# Altium schematic symbol library CHIP_PRO_v1_0_Library.SchLib: 70 symbols
Pins are listed as number, name and electrical type; pins without a type are passive.

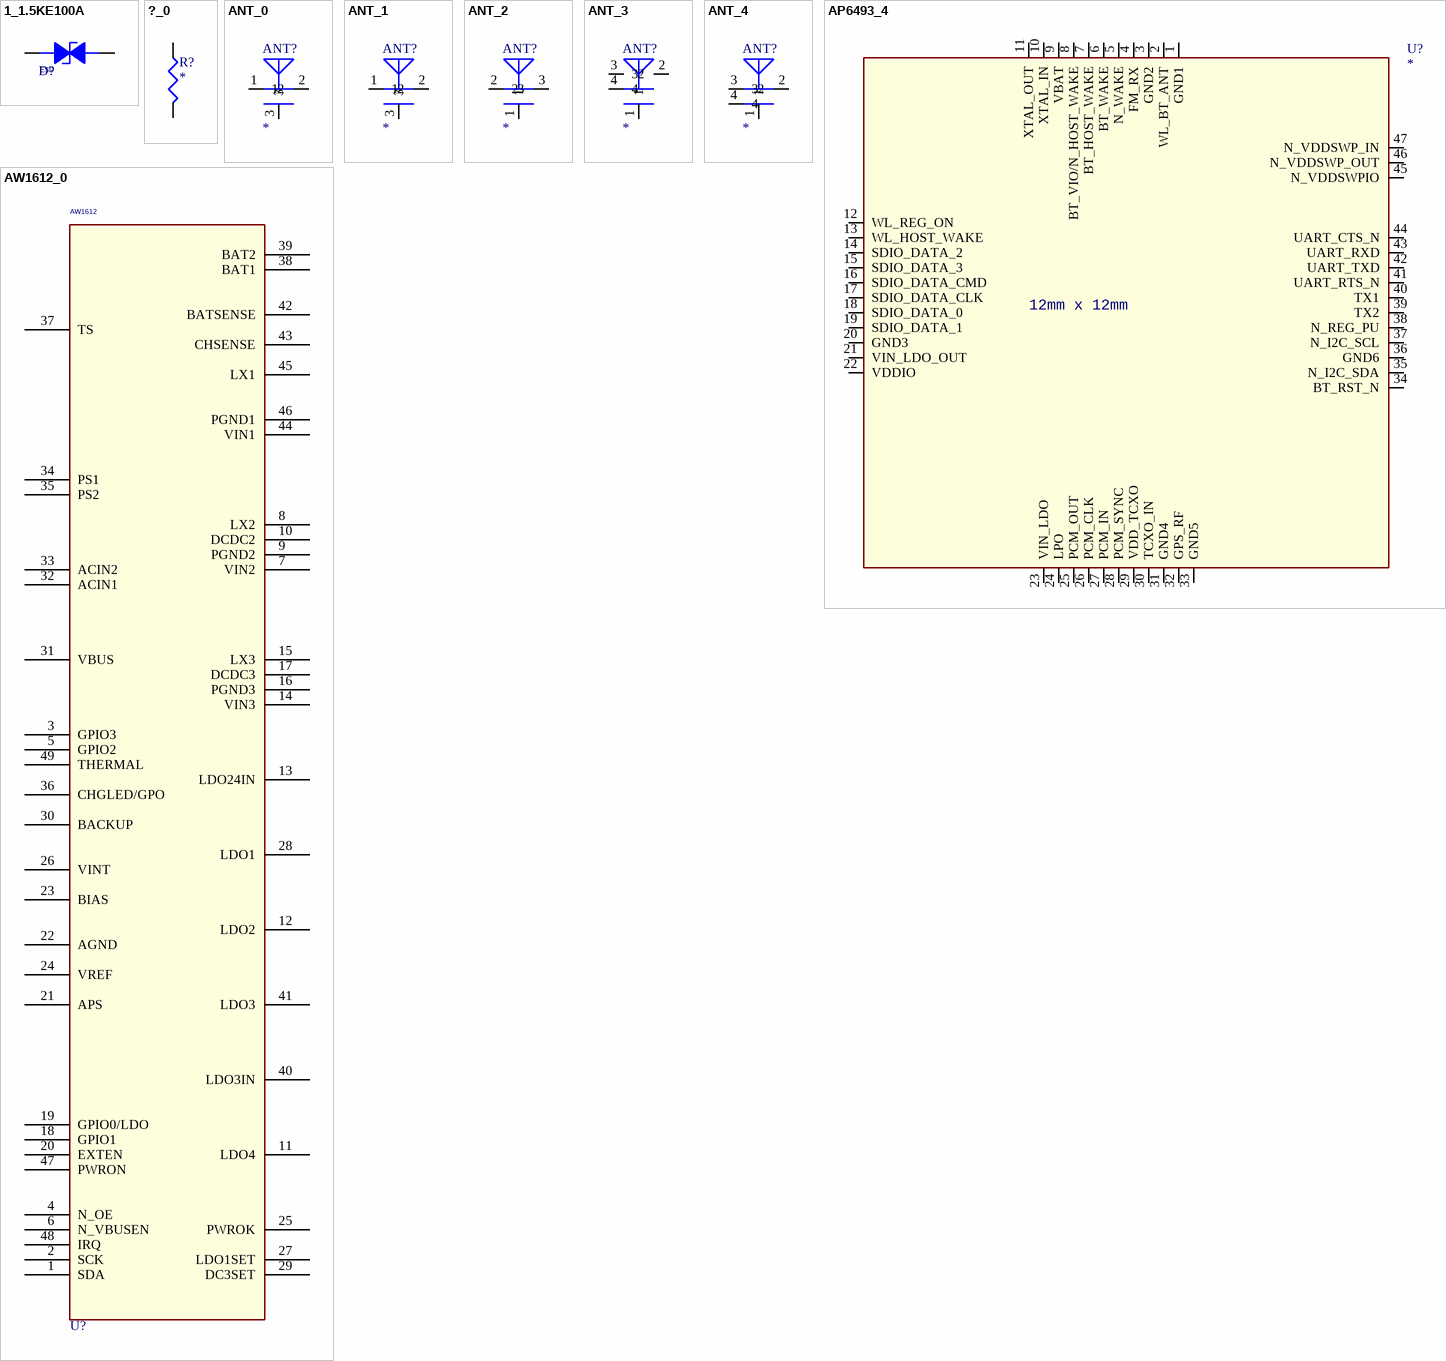
[diagram p0: symbols 1_1.5KE100A to AW1612_0]

## 1_1.5KE100A
designator D?, comment ESD
pins: 1 ANODE, 2 CATHODE

## ?_0
designator R?
footprint R0402
pins: 1, 2

## ANT_0
designator ANT?
pins: 1 (hiz), 2, 3

## ANT_1
designator ANT?
pins: 1, 2, 3

## ANT_2
designator ANT?
pins: 1, 2, 3

## ANT_3
designator ANT?
pins: 1, 2, 3, 4

## ANT_4
designator ANT?
pins: 1, 2, 3, 4

## AP6493_4
designator U?
pins: 1 GND1, 2 WL_BT_ANT, 3 GND2, 4 FM_RX, 5 N_WAKE, 6 BT_WAKE, 7 BT_HOST_WAKE, 8 BT_VIO/N_HOST_WAKE, 9 VBAT, 10 XTAL_IN, 11 XTAL_OUT, 12 WL_REG_ON, 13 WL_HOST_WAKE, 14 SDIO_DATA_2, 15 SDIO_DATA_3, 16 SDIO_DATA_CMD, 17 SDIO_DATA_CLK, 18 SDIO_DATA_0, 19 SDIO_DATA_1, 20 GND3, 21 VIN_LDO_OUT, 22 VDDIO, 23 VIN_LDO, 24 LPO, 25 PCM_OUT, 26 PCM_CLK, 27 PCM_IN, 28 PCM_SYNC, 29 VDD_TCXO, 30 TCXO_IN, 31 GND4, 32 GPS_RF, 33 GND5, 34 BT_RST_N, 35 N_I2C_SDA, 36 GND6, 37 N_I2C_SCL, 38 N_REG_PU, 39 TX2, 40 TX1, 41 UART_RTS_N, 42 UART_TXD, 43 UART_RXD, 44 UART_CTS_N, 45 N_VDDSWPIO, 46 N_VDDSWP_OUT, 47 N_VDDSWP_IN
text: 12mm x 12mm

## AW1612_0
designator U?, comment AW1612
pins: 1 SDA, 2 SCK, 3 GPIO3, 4 N_OE, 5 GPIO2, 6 N_VBUSEN, 7 VIN2, 8 LX2, 9 PGND2, 10 DCDC2, 11 LDO4, 12 LDO2, 13 LDO24IN, 14 VIN3, 15 LX3, 16 PGND3, 17 DCDC3, 18 GPIO1, 19 GPIO0/LDO, 20 EXTEN, 21 APS, 22 AGND, 23 BIAS, 24 VREF, 25 PWROK, 26 VINT, 27 LDO1SET, 28 LDO1, 29 DC3SET, 30 BACKUP, 31 VBUS, 32 ACIN1, 33 ACIN2, 34 PS1, 35 PS2, 36 CHGLED/GPO, 37 TS, 38 BAT1, 39 BAT2, 40 LDO3IN, 41 LDO3, 42 BATSENSE, 43 CHSENSE, 44 VIN1, 45 LX1, 46 PGND1, 47 PWRON, 48 IRQ, 49 THERMAL

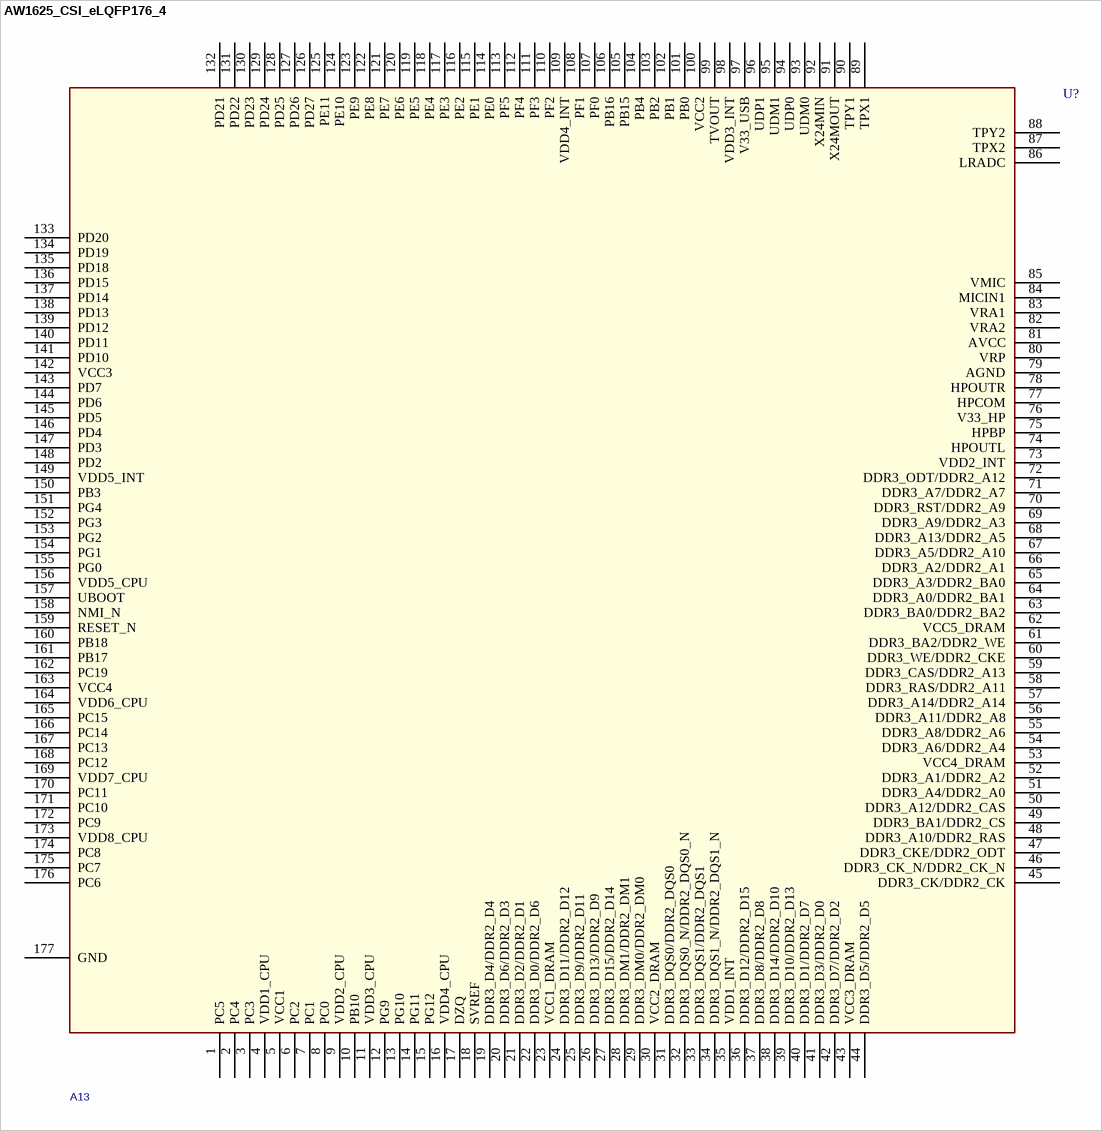
[diagram p1: symbol AW1625_CSI_eLQFP176_4]

## AW1625_CSI_eLQFP176_4
designator U?, comment A13
pins: 1 PC5, 2 PC4, 3 PC3, 4 VDD1_CPU, 5 VCC1, 6 PC2, 7 PC1, 8 PC0, 9 VDD2_CPU, 10 PB10, 11 VDD3_CPU, 12 PG9, 13 PG10, 14 PG11, 15 PG12, 16 VDD4_CPU, 17 DZQ, 18 SVREF, 19 DDR3_D4/DDR2_D4, 20 DDR3_D6/DDR2_D3, 21 DDR3_D2/DDR2_D1, 22 DDR3_D0/DDR2_D6, 23 VCC1_DRAM, 24 DDR3_D11/DDR2_D12, 25 DDR3_D9/DDR2_D11, 26 DDR3_D13/DDR2_D9, 27 DDR3_D15/DDR2_D14, 28 DDR3_DM1/DDR2_DM1, 29 DDR3_DM0/DDR2_DM0, 30 VCC2_DRAM, 31 DDR3_DQS0/DDR2_DQS0, 32 DDR3_DQS0_N/DDR2_DQS0_N, 33 DDR3_DQS1/DDR2_DQS1, 34 DDR3_DQS1_N/DDR2_DQS1_N, 35 VDD1_INT, 36 DDR3_D12/DDR2_D15, 37 DDR3_D8/DDR2_D8, 38 DDR3_D14/DDR2_D10, 39 DDR3_D10/DDR2_D13, 40 DDR3_D1/DDR2_D7, 41 DDR3_D3/DDR2_D0, 42 DDR3_D7/DDR2_D2, 43 VCC3_DRAM, 44 DDR3_D5/DDR2_D5, 45 DDR3_CK/DDR2_CK, 46 DDR3_CK_N/DDR2_CK_N, 47 DDR3_CKE/DDR2_ODT, 48 DDR3_A10/DDR2_RAS, 49 DDR3_BA1/DDR2_CS, 50 DDR3_A12/DDR2_CAS, 51 DDR3_A4/DDR2_A0, 52 DDR3_A1/DDR2_A2, 53 VCC4_DRAM, 54 DDR3_A6/DDR2_A4, 55 DDR3_A8/DDR2_A6, 56 DDR3_A11/DDR2_A8, 57 DDR3_A14/DDR2_A14, 58 DDR3_RAS/DDR2_A11, 59 DDR3_CAS/DDR2_A13, 60 DDR3_WE/DDR2_CKE, 61 DDR3_BA2/DDR2_WE, 62 VCC5_DRAM, 63 DDR3_BA0/DDR2_BA2, 64 DDR3_A0/DDR2_BA1, 65 DDR3_A3/DDR2_BA0, 66 DDR3_A2/DDR2_A1, 67 DDR3_A5/DDR2_A10, 68 DDR3_A13/DDR2_A5, 69 DDR3_A9/DDR2_A3, 70 DDR3_RST/DDR2_A9, 71 DDR3_A7/DDR2_A7, 72 DDR3_ODT/DDR2_A12, 73 VDD2_INT, 74 HPOUTL, 75 HPBP, 76 V33_HP, 77 HPCOM, 78 HPOUTR, 79 AGND, 80 VRP, 81 AVCC, 82 VRA2, 83 VRA1, 84 MICIN1, 85 VMIC, 86 LRADC, 87 TPX2, 88 TPY2, 89 TPX1, 90 TPY1, 91 X24MOUT, 92 X24MIN, 93 UDM0, 94 UDP0, 95 UDM1, 96 UDP1, 97 V33_USB, 98 VDD3_INT, 99 TVOUT, 100 VCC2, 101 PB0, 102 PB1, 103 PB2, 104 PB4, 105 PB15, 106 PB16, 107 PF0, 108 PF1, 109 VDD4_INT, 110 PF2, 111 PF3, 112 PF4, 113 PF5, 114 PE0, 115 PE1, 116 PE2, 117 PE3, 118 PE4, 119 PE5, 120 PE6, 121 PE7, 122 PE8, 123 PE9, 124 PE10, 125 PE11, 126 PD27, 127 PD26, 128 PD25, 129 PD24, 130 PD23, 131 PD22, 132 PD21, 133 PD20, 134 PD19, 135 PD18, 136 PD15, 137 PD14, 138 PD13, 139 PD12, 140 PD11, 141 PD10, 142 VCC3, 143 PD7, 144 PD6, 145 PD5, 146 PD4, 147 PD3, 148 PD2, 149 VDD5_INT, 150 PB3, 151 PG4, 152 PG3, 153 PG2, 154 PG1, 155 PG0, 156 VDD5_CPU, 157 UBOOT, 158 NMI_N, 159 RESET_N, 160 PB18, 161 PB17, 162 PC19, 163 VCC4, 164 VDD6_CPU, 165 PC15, 166 PC14, 167 PC13, 168 PC12, 169 VDD7_CPU, 170 PC11, 171 PC10, 172 PC9, 173 VDD8_CPU, 174 PC8, 175 PC7, 176 PC6, 177 GND

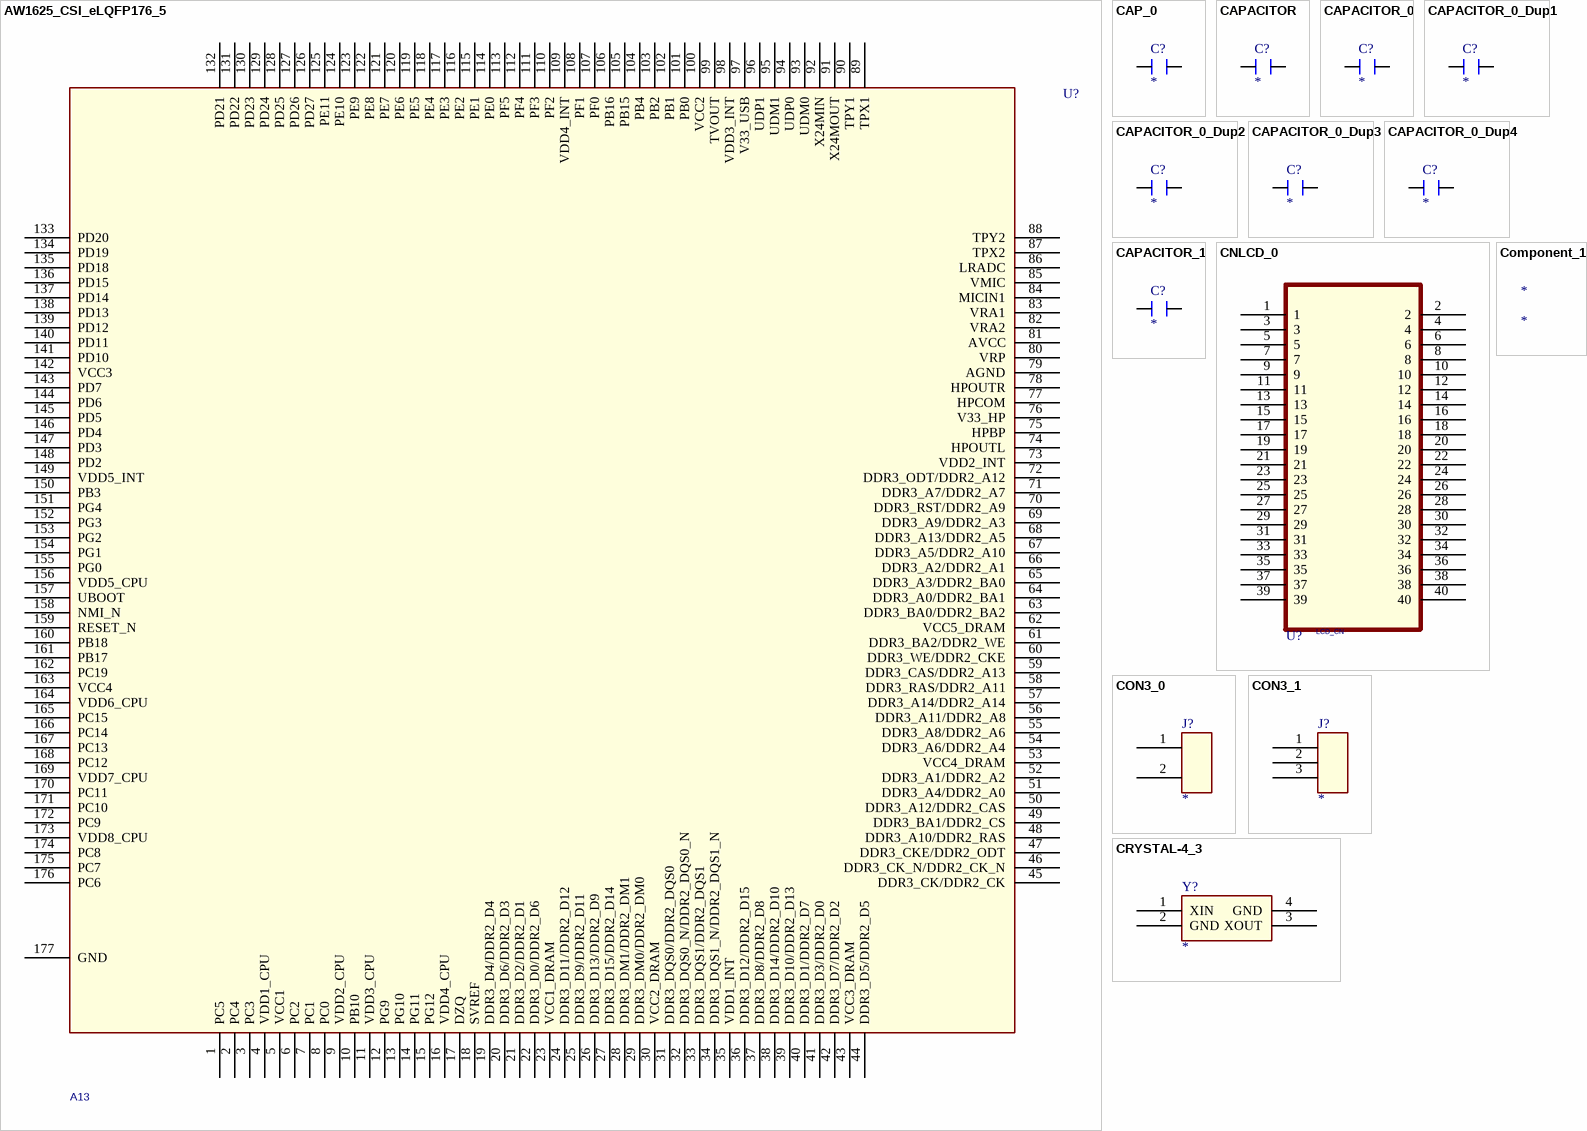
[diagram p2: symbols AW1625_CSI_eLQFP176_5 to CRYSTAL-4_3]

## AW1625_CSI_eLQFP176_5
designator U?, comment A13
pins: 1 PC5, 2 PC4, 3 PC3, 4 VDD1_CPU, 5 VCC1, 6 PC2, 7 PC1, 8 PC0, 9 VDD2_CPU, 10 PB10, 11 VDD3_CPU, 12 PG9, 13 PG10, 14 PG11, 15 PG12, 16 VDD4_CPU, 17 DZQ, 18 SVREF, 19 DDR3_D4/DDR2_D4, 20 DDR3_D6/DDR2_D3, 21 DDR3_D2/DDR2_D1, 22 DDR3_D0/DDR2_D6, 23 VCC1_DRAM, 24 DDR3_D11/DDR2_D12, 25 DDR3_D9/DDR2_D11, 26 DDR3_D13/DDR2_D9, 27 DDR3_D15/DDR2_D14, 28 DDR3_DM1/DDR2_DM1, 29 DDR3_DM0/DDR2_DM0, 30 VCC2_DRAM, 31 DDR3_DQS0/DDR2_DQS0, 32 DDR3_DQS0_N/DDR2_DQS0_N, 33 DDR3_DQS1/DDR2_DQS1, 34 DDR3_DQS1_N/DDR2_DQS1_N, 35 VDD1_INT, 36 DDR3_D12/DDR2_D15, 37 DDR3_D8/DDR2_D8, 38 DDR3_D14/DDR2_D10, 39 DDR3_D10/DDR2_D13, 40 DDR3_D1/DDR2_D7, 41 DDR3_D3/DDR2_D0, 42 DDR3_D7/DDR2_D2, 43 VCC3_DRAM, 44 DDR3_D5/DDR2_D5, 45 DDR3_CK/DDR2_CK, 46 DDR3_CK_N/DDR2_CK_N, 47 DDR3_CKE/DDR2_ODT, 48 DDR3_A10/DDR2_RAS, 49 DDR3_BA1/DDR2_CS, 50 DDR3_A12/DDR2_CAS, 51 DDR3_A4/DDR2_A0, 52 DDR3_A1/DDR2_A2, 53 VCC4_DRAM, 54 DDR3_A6/DDR2_A4, 55 DDR3_A8/DDR2_A6, 56 DDR3_A11/DDR2_A8, 57 DDR3_A14/DDR2_A14, 58 DDR3_RAS/DDR2_A11, 59 DDR3_CAS/DDR2_A13, 60 DDR3_WE/DDR2_CKE, 61 DDR3_BA2/DDR2_WE, 62 VCC5_DRAM, 63 DDR3_BA0/DDR2_BA2, 64 DDR3_A0/DDR2_BA1, 65 DDR3_A3/DDR2_BA0, 66 DDR3_A2/DDR2_A1, 67 DDR3_A5/DDR2_A10, 68 DDR3_A13/DDR2_A5, 69 DDR3_A9/DDR2_A3, 70 DDR3_RST/DDR2_A9, 71 DDR3_A7/DDR2_A7, 72 DDR3_ODT/DDR2_A12, 73 VDD2_INT, 74 HPOUTL, 75 HPBP, 76 V33_HP, 77 HPCOM, 78 HPOUTR, 79 AGND, 80 VRP, 81 AVCC, 82 VRA2, 83 VRA1, 84 MICIN1, 85 VMIC, 86 LRADC, 87 TPX2, 88 TPY2, 89 TPX1, 90 TPY1, 91 X24MOUT, 92 X24MIN, 93 UDM0, 94 UDP0, 95 UDM1, 96 UDP1, 97 V33_USB, 98 VDD3_INT, 99 TVOUT, 100 VCC2, 101 PB0, 102 PB1, 103 PB2, 104 PB4, 105 PB15, 106 PB16, 107 PF0, 108 PF1, 109 VDD4_INT, 110 PF2, 111 PF3, 112 PF4, 113 PF5, 114 PE0, 115 PE1, 116 PE2, 117 PE3, 118 PE4, 119 PE5, 120 PE6, 121 PE7, 122 PE8, 123 PE9, 124 PE10, 125 PE11, 126 PD27, 127 PD26, 128 PD25, 129 PD24, 130 PD23, 131 PD22, 132 PD21, 133 PD20, 134 PD19, 135 PD18, 136 PD15, 137 PD14, 138 PD13, 139 PD12, 140 PD11, 141 PD10, 142 VCC3, 143 PD7, 144 PD6, 145 PD5, 146 PD4, 147 PD3, 148 PD2, 149 VDD5_INT, 150 PB3, 151 PG4, 152 PG3, 153 PG2, 154 PG1, 155 PG0, 156 VDD5_CPU, 157 UBOOT, 158 NMI_N, 159 RESET_N, 160 PB18, 161 PB17, 162 PC19, 163 VCC4, 164 VDD6_CPU, 165 PC15, 166 PC14, 167 PC13, 168 PC12, 169 VDD7_CPU, 170 PC11, 171 PC10, 172 PC9, 173 VDD8_CPU, 174 PC8, 175 PC7, 176 PC6, 177 GND

## CAP_0
designator C?
footprint 0805
pins: 1, 2

## CAPACITOR
designator C?
pins: 1, 2

## CAPACITOR_0
designator C?
pins: 1, 2

## CAPACITOR_0_Dup1
designator C?
pins: 1, 2

## CAPACITOR_0_Dup2
designator C?
pins: 1, 2

## CAPACITOR_0_Dup3
designator C?
pins: 1, 2

## CAPACITOR_0_Dup4
designator C?
pins: 1, 2

## CAPACITOR_1
designator C?
pins: 1, 2

## CNLCD_0
designator U?, comment LCD_CN
pins: 1, 2, 3, 4, 5, 6, 7, 8, 9, 10, 11, 12, 13, 14, 15, 16, 17, 18, 19, 20, 21, 22, 23, 24, 25, 26, 27, 28, 29, 30, 31, 32, 33, 34, 35, 36, 37, 38, 39, 40

## Component_1
designator *

## CON3_0
designator J?
pins: 1, 2

## CON3_1
designator J?
pins: 1, 2, 3

## CRYSTAL-4_3
designator Y?
footprint CRY-3225
pins: 1 XIN, 2 GND (power), 3 XOUT, 4 GND (power)

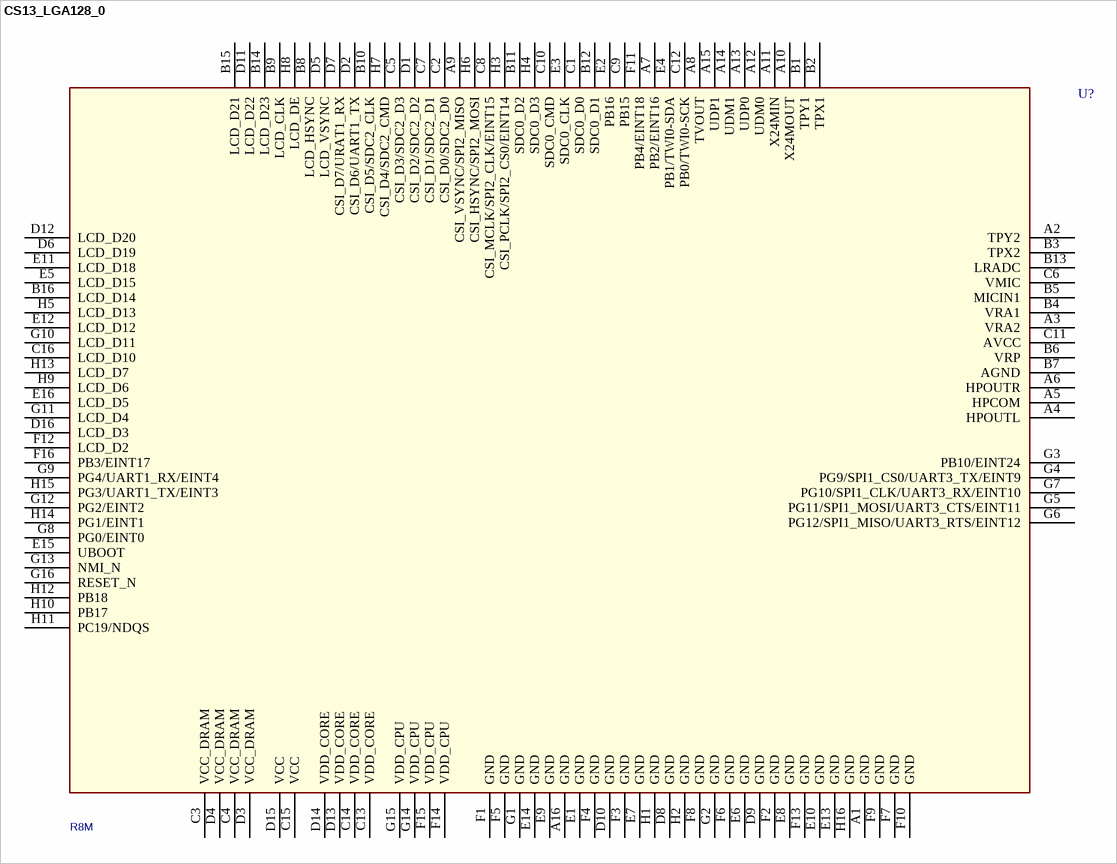
[diagram p3: symbol CS13_LGA128_0]

## CS13_LGA128_0
designator U?, comment R8M
pins: A1 GND (power), A2 TPY2, A3 VRA2, A4 HPOUTL, A5 HPCOM, A6 HPOUTR, A7 PB2/EINT16, A8 TVOUT, A9 CSI_VSYNC/SPI2_MISO, A10 X24MOUT, A11 X24MIN, A12 UDM0, A13 UDP0, A14 UDM1, A15 UDP1, A16 GND (power), B1 TPY1, B2 TPX1, B3 TPX2, B4 VRA1, B5 MICIN1, B6 VRP, B7 AGND, B8 LCD_HSYNC, B9 LCD_CLK, B10 CSI_D5/SDC2_CLK, B11 SDC0_D2, B12 SDC0_D1, B13 LRADC, B14 LCD_D23, B15 LCD_D21, B16 LCD_D14, C1 SDC0_D0, C2 CSI_D0/SDC2_D0, C3 VCC_DRAM (power), C4 VCC_DRAM (power), C5 CSI_D3/SDC2_D3, C6 VMIC, C7 CSI_D1/SDC2_D1, C8 CSI_MCLK/SPI2_CLK/EINT15, C9 PB15, C10 SDC0_CMD, C11 AVCC, C12 PB0/TWI0-SCK, C13 VDD_CORE (power), C14 VDD_CORE (power), C15 VCC (power), C16 LCD_D10, D1 CSI_D2/SDC2_D2, D2 CSI_D6/UART1_TX, D3 VCC_DRAM (power), D4 VCC_DRAM (power), D5 LCD_VSYNC, D6 LCD_D19, D7 CSI_D7/URAT1_RX, D8 GND (power), D9 GND (power), D10 GND (power), D11 LCD_D22, D12 LCD_D20, D13 VDD_CORE (power), D14 VDD_CORE (power), D15 VCC (power), D16 LCD_D3, E1 GND (power), E2 PB16, E3 SDC0_CLK, E4 PB1/TWI0-SDA, E5 LCD_D15, E6 GND (power), E7 GND (power), E8 GND (power), E9 GND (power), E10 GND (power), E11 LCD_D18, E12 LCD_D12, E13 GND (power), E14 GND (power), E15 UBOOT, E16 LCD_D5, F1 GND (power), F2 GND (power), F3 GND (power), F4 GND (power), F5 GND (power), F6 GND (power), F7 GND (power), F8 GND (power), F9 GND (power), F10 GND (power), F11 PB4/EINT18, F12 LCD_D2, F13 GND (power), F14 VDD_CPU (power), F15 VDD_CPU (power), F16 PB3/EINT17, G1 GND (power), G2 GND (power), G3 PB10/EINT24, G4 PG9/SPI1_CS0/UART3_TX/EINT9, G5 PG11/SPI1_MOSI/UART3_CTS/EINT11, G6 PG12/SPI1_MISO/UART3_RTS/EINT12, G7 PG10/SPI1_CLK/UART3_RX/EINT10, G8 PG0/EINT0, G9 PG4/UART1_RX/EINT4, G10 LCD_D11, G11 LCD_D4, G12 PG2/EINT2, G13 NMI_N, G14 VDD_CPU (power), G15 VDD_CPU (power), G16 RESET_N, H1 GND (power), H2 GND (power), H3 CSI_PCLK/SPI2_CS0/EINT14, H4 SDC0_D3, H5 LCD_D13, H6 CSI_HSYNC/SPI2_MOSI, H7 CSI_D4/SDC2_CMD, H8 LCD_DE, H9 LCD_D6, H10 PB17, H11 PC19/NDQS, H12 PB18, H13 LCD_D7, H14 PG1/EINT1, H15 PG3/UART1_TX/EINT3, H16 GND (power)

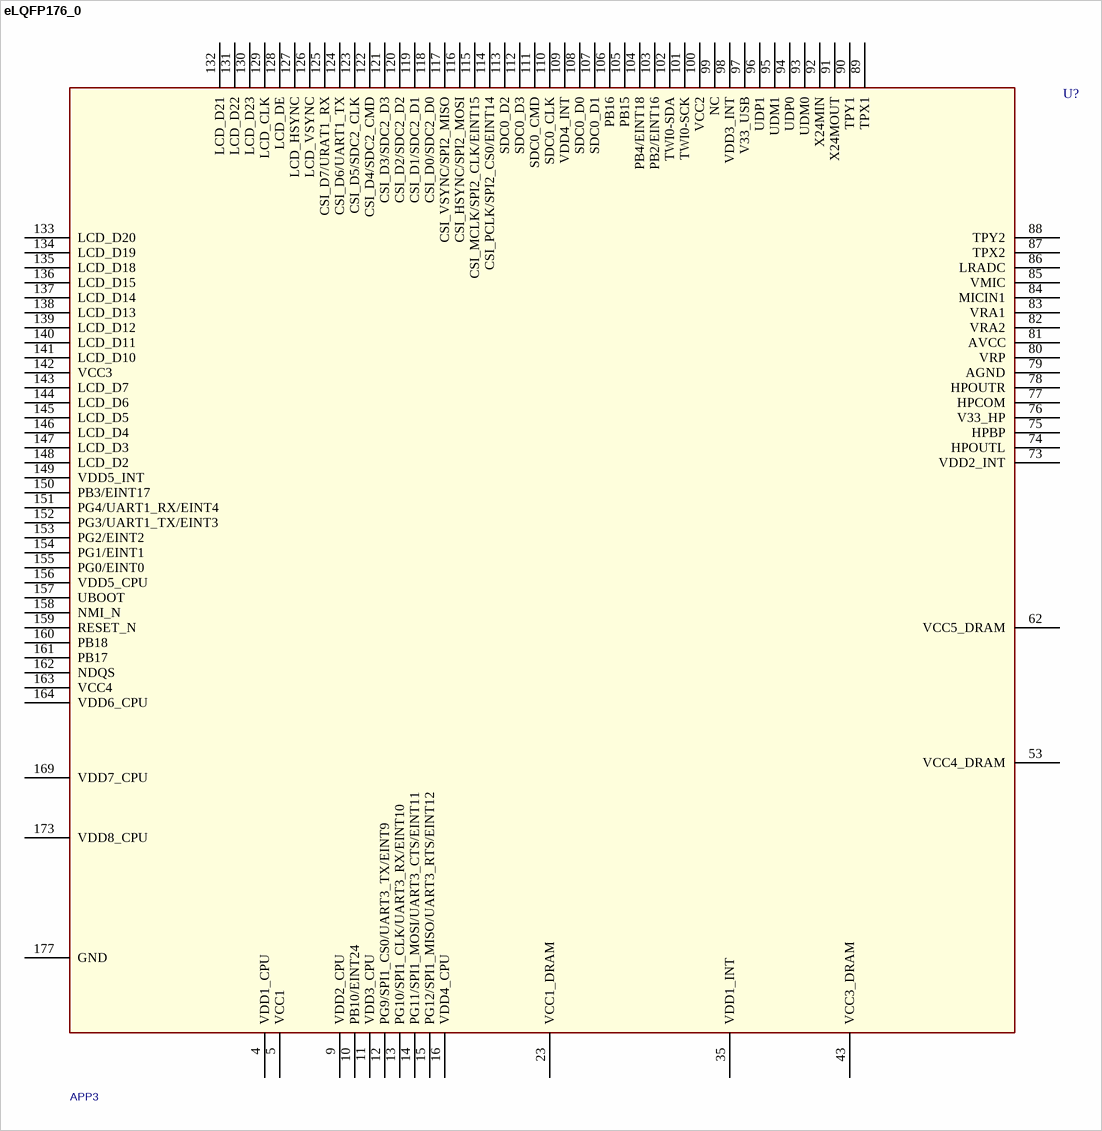
[diagram p4: symbol eLQFP176_0]

## eLQFP176_0
designator U?, comment APP3
pins: 4 VDD1_CPU, 5 VCC1, 9 VDD2_CPU, 10 PB10/EINT24, 11 VDD3_CPU, 12 PG9/SPI1_CS0/UART3_TX/EINT9, 13 PG10/SPI1_CLK/UART3_RX/EINT10, 14 PG11/SPI1_MOSI/UART3_CTS/EINT11, 15 PG12/SPI1_MISO/UART3_RTS/EINT12, 16 VDD4_CPU, 23 VCC1_DRAM, 35 VDD1_INT, 43 VCC3_DRAM, 53 VCC4_DRAM, 62 VCC5_DRAM, 73 VDD2_INT, 74 HPOUTL, 75 HPBP, 76 V33_HP, 77 HPCOM, 78 HPOUTR, 79 AGND, 80 VRP, 81 AVCC, 82 VRA2, 83 VRA1, 84 MICIN1, 85 VMIC, 86 LRADC, 87 TPX2, 88 TPY2, 89 TPX1, 90 TPY1, 91 X24MOUT, 92 X24MIN, 93 UDM0, 94 UDP0, 95 UDM1, 96 UDP1, 97 V33_USB, 98 VDD3_INT, 99 NC, 100 VCC2, 101 TWI0-SCK, 102 TWI0-SDA, 103 PB2/EINT16, 104 PB4/EINT18, 105 PB15, 106 PB16, 107 SDC0_D1, 108 SDC0_D0, 109 VDD4_INT, 110 SDC0_CLK, 111 SDC0_CMD, 112 SDC0_D3, 113 SDC0_D2, 114 CSI_PCLK/SPI2_CS0/EINT14, 115 CSI_MCLK/SPI2_CLK/EINT15, 116 CSI_HSYNC/SPI2_MOSI, 117 CSI_VSYNC/SPI2_MISO, 118 CSI_D0/SDC2_D0, 119 CSI_D1/SDC2_D1, 120 CSI_D2/SDC2_D2, 121 CSI_D3/SDC2_D3, 122 CSI_D4/SDC2_CMD, 123 CSI_D5/SDC2_CLK, 124 CSI_D6/UART1_TX, 125 CSI_D7/URAT1_RX, 126 LCD_VSYNC, 127 LCD_HSYNC, 128 LCD_DE, 129 LCD_CLK, 130 LCD_D23, 131 LCD_D22, 132 LCD_D21, 133 LCD_D20, 134 LCD_D19, 135 LCD_D18, 136 LCD_D15, 137 LCD_D14, 138 LCD_D13, 139 LCD_D12, 140 LCD_D11, 141 LCD_D10, 142 VCC3, 143 LCD_D7, 144 LCD_D6, 145 LCD_D5, 146 LCD_D4, 147 LCD_D3, 148 LCD_D2, 149 VDD5_INT, 150 PB3/EINT17, 151 PG4/UART1_RX/EINT4, 152 PG3/UART1_TX/EINT3, 153 PG2/EINT2, 154 PG1/EINT1, 155 PG0/EINT0, 156 VDD5_CPU, 157 UBOOT, 158 NMI_N, 159 RESET_N, 160 PB18, 161 PB17, 162 NDQS, 163 VCC4, 164 VDD6_CPU, 169 VDD7_CPU, 173 VDD8_CPU, 177 GND

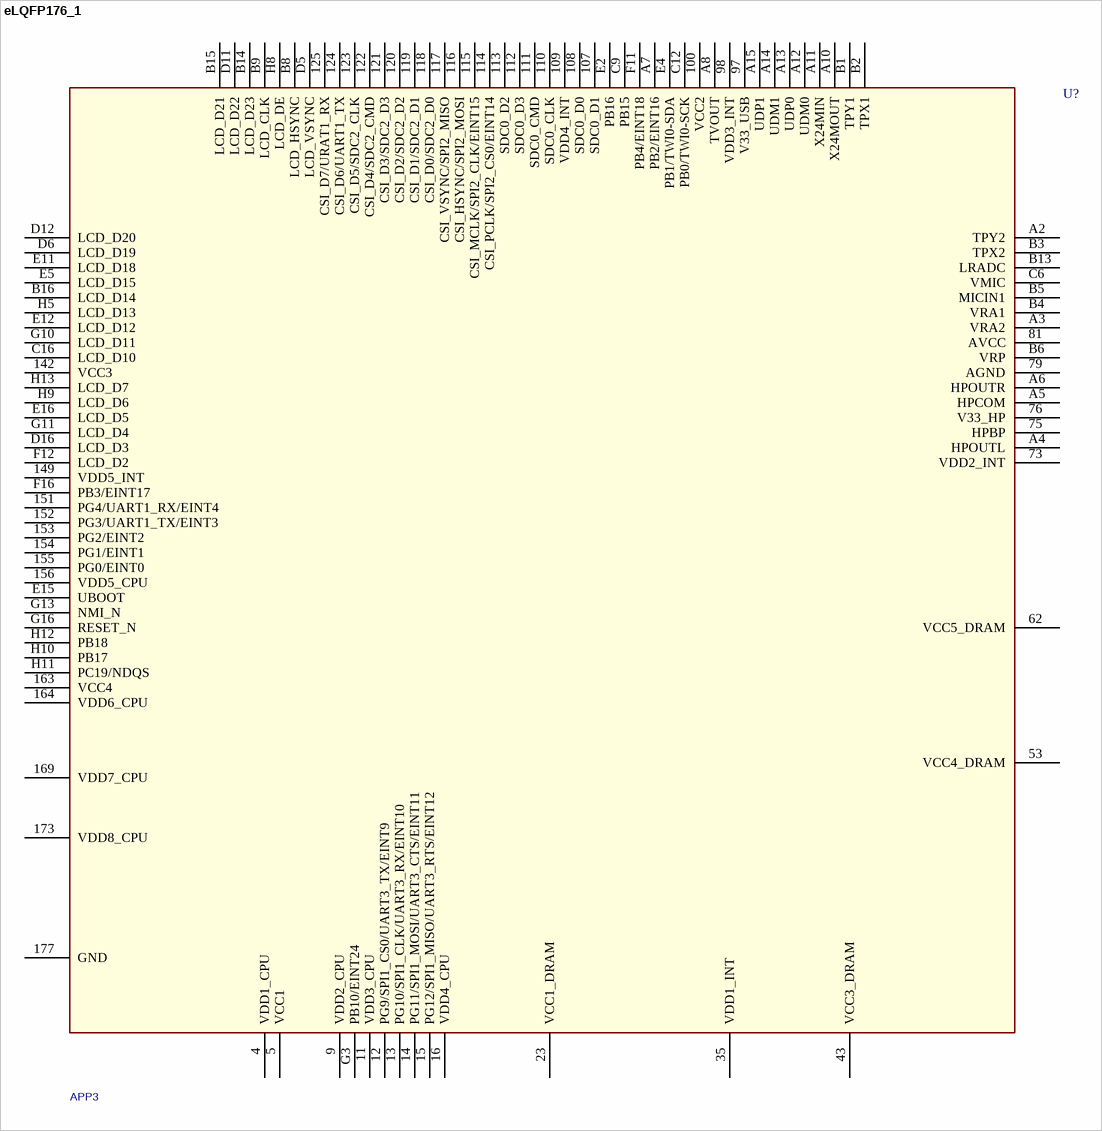
[diagram p5: symbol eLQFP176_1]

## eLQFP176_1
designator U?, comment APP3
pins: 4 VDD1_CPU, 5 VCC1, 9 VDD2_CPU, 11 VDD3_CPU, 12 PG9/SPI1_CS0/UART3_TX/EINT9, 13 PG10/SPI1_CLK/UART3_RX/EINT10, 14 PG11/SPI1_MOSI/UART3_CTS/EINT11, 15 PG12/SPI1_MISO/UART3_RTS/EINT12, 16 VDD4_CPU, 23 VCC1_DRAM, 35 VDD1_INT, 43 VCC3_DRAM, 53 VCC4_DRAM, 62 VCC5_DRAM, 73 VDD2_INT, 75 HPBP, 76 V33_HP, 79 AGND, 81 AVCC, 97 V33_USB, 98 VDD3_INT, 100 VCC2, 107 SDC0_D1, 108 SDC0_D0, 109 VDD4_INT, 110 SDC0_CLK, 111 SDC0_CMD, 112 SDC0_D3, 113 SDC0_D2, 114 CSI_PCLK/SPI2_CS0/EINT14, 115 CSI_MCLK/SPI2_CLK/EINT15, 116 CSI_HSYNC/SPI2_MOSI, 117 CSI_VSYNC/SPI2_MISO, 118 CSI_D0/SDC2_D0, 119 CSI_D1/SDC2_D1, 120 CSI_D2/SDC2_D2, 121 CSI_D3/SDC2_D3, 122 CSI_D4/SDC2_CMD, 123 CSI_D5/SDC2_CLK, 124 CSI_D6/UART1_TX, 125 CSI_D7/URAT1_RX, 142 VCC3, 149 VDD5_INT, 151 PG4/UART1_RX/EINT4, 152 PG3/UART1_TX/EINT3, 153 PG2/EINT2, 154 PG1/EINT1, 155 PG0/EINT0, 156 VDD5_CPU, 163 VCC4, 164 VDD6_CPU, 169 VDD7_CPU, 173 VDD8_CPU, 177 GND, A2 TPY2, A3 VRA2, A4 HPOUTL, A5 HPCOM, A6 HPOUTR, A7 PB2/EINT16, A8 TVOUT, A10 X24MOUT, A11 X24MIN, A12 UDM0, A13 UDP0, A14 UDM1, A15 UDP1, B1 TPY1, B2 TPX1, B3 TPX2, B4 VRA1, B5 MICIN1, B6 VRP, B8 LCD_HSYNC, B9 LCD_CLK, B13 LRADC, B14 LCD_D23, B15 LCD_D21, B16 LCD_D14, C6 VMIC, C9 PB15, C12 PB0/TWI0-SCK, C16 LCD_D10, D5 LCD_VSYNC, D6 LCD_D19, D11 LCD_D22, D12 LCD_D20, D16 LCD_D3, E2 PB16, E4 PB1/TWI0-SDA, E5 LCD_D15, E11 LCD_D18, E12 LCD_D12, E15 UBOOT, E16 LCD_D5, F11 PB4/EINT18, F12 LCD_D2, F16 PB3/EINT17, G3 PB10/EINT24, G10 LCD_D11, G11 LCD_D4, G13 NMI_N, G16 RESET_N, H5 LCD_D13, H8 LCD_DE, H9 LCD_D6, H10 PB17, H11 PC19/NDQS, H12 PB18, H13 LCD_D7

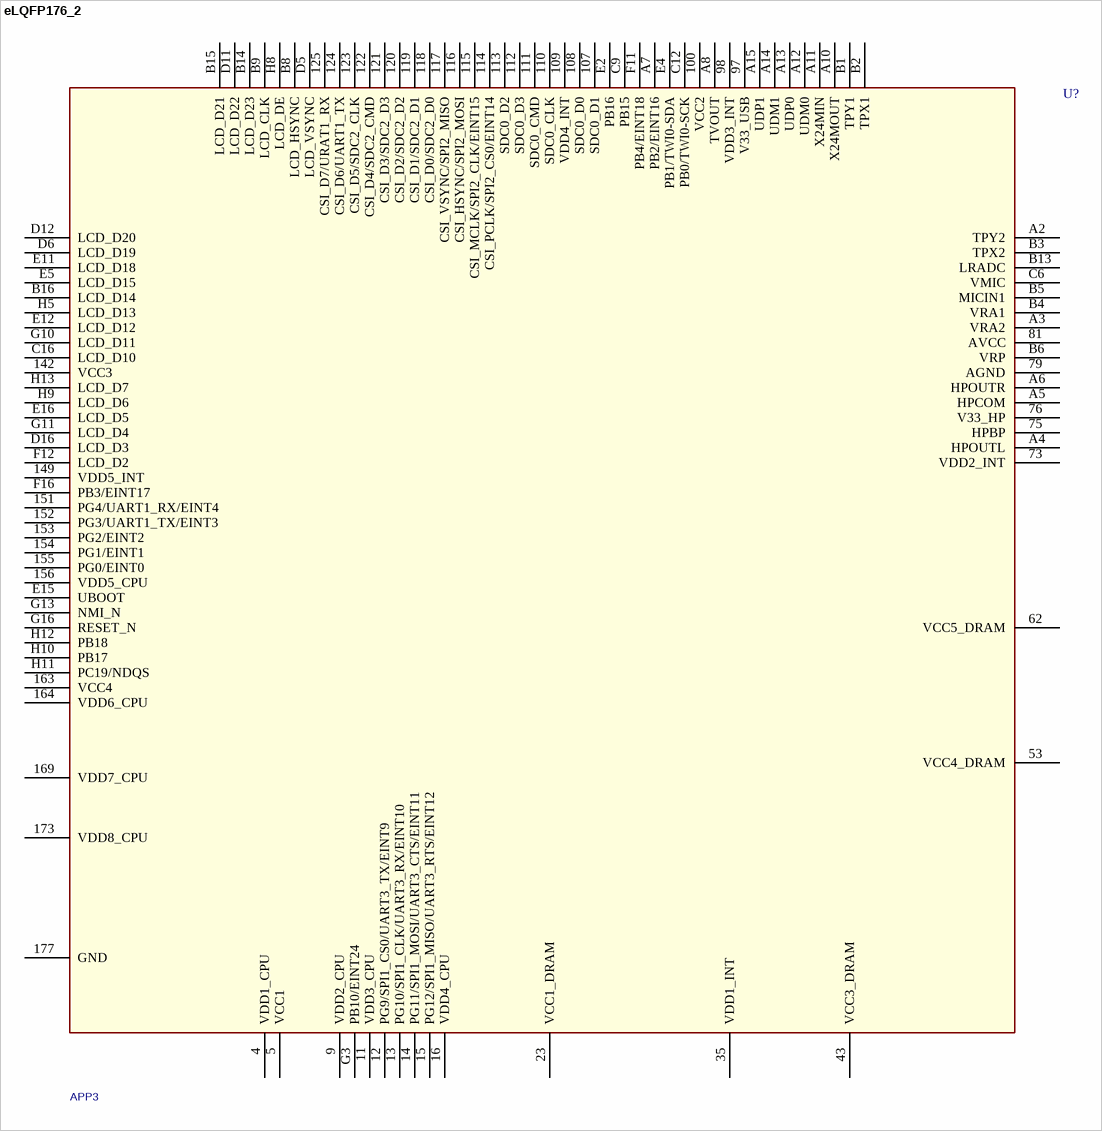
[diagram p6: symbol eLQFP176_2]

## eLQFP176_2
designator U?, comment APP3
pins: 4 VDD1_CPU, 5 VCC1, 9 VDD2_CPU, 11 VDD3_CPU, 12 PG9/SPI1_CS0/UART3_TX/EINT9, 13 PG10/SPI1_CLK/UART3_RX/EINT10, 14 PG11/SPI1_MOSI/UART3_CTS/EINT11, 15 PG12/SPI1_MISO/UART3_RTS/EINT12, 16 VDD4_CPU, 23 VCC1_DRAM, 35 VDD1_INT, 43 VCC3_DRAM, 53 VCC4_DRAM, 62 VCC5_DRAM, 73 VDD2_INT, 75 HPBP, 76 V33_HP, 79 AGND, 81 AVCC, 97 V33_USB, 98 VDD3_INT, 100 VCC2, 107 SDC0_D1, 108 SDC0_D0, 109 VDD4_INT, 110 SDC0_CLK, 111 SDC0_CMD, 112 SDC0_D3, 113 SDC0_D2, 114 CSI_PCLK/SPI2_CS0/EINT14, 115 CSI_MCLK/SPI2_CLK/EINT15, 116 CSI_HSYNC/SPI2_MOSI, 117 CSI_VSYNC/SPI2_MISO, 118 CSI_D0/SDC2_D0, 119 CSI_D1/SDC2_D1, 120 CSI_D2/SDC2_D2, 121 CSI_D3/SDC2_D3, 122 CSI_D4/SDC2_CMD, 123 CSI_D5/SDC2_CLK, 124 CSI_D6/UART1_TX, 125 CSI_D7/URAT1_RX, 142 VCC3, 149 VDD5_INT, 151 PG4/UART1_RX/EINT4, 152 PG3/UART1_TX/EINT3, 153 PG2/EINT2, 154 PG1/EINT1, 155 PG0/EINT0, 156 VDD5_CPU, 163 VCC4, 164 VDD6_CPU, 169 VDD7_CPU, 173 VDD8_CPU, 177 GND, A2 TPY2, A3 VRA2, A4 HPOUTL, A5 HPCOM, A6 HPOUTR, A7 PB2/EINT16, A8 TVOUT, A10 X24MOUT, A11 X24MIN, A12 UDM0, A13 UDP0, A14 UDM1, A15 UDP1, B1 TPY1, B2 TPX1, B3 TPX2, B4 VRA1, B5 MICIN1, B6 VRP, B8 LCD_HSYNC, B9 LCD_CLK, B13 LRADC, B14 LCD_D23, B15 LCD_D21, B16 LCD_D14, C6 VMIC, C9 PB15, C12 PB0/TWI0-SCK, C16 LCD_D10, D5 LCD_VSYNC, D6 LCD_D19, D11 LCD_D22, D12 LCD_D20, D16 LCD_D3, E2 PB16, E4 PB1/TWI0-SDA, E5 LCD_D15, E11 LCD_D18, E12 LCD_D12, E15 UBOOT, E16 LCD_D5, F11 PB4/EINT18, F12 LCD_D2, F16 PB3/EINT17, G3 PB10/EINT24, G10 LCD_D11, G11 LCD_D4, G13 NMI_N, G16 RESET_N, H5 LCD_D13, H8 LCD_DE, H9 LCD_D6, H10 PB17, H11 PC19/NDQS, H12 PB18, H13 LCD_D7

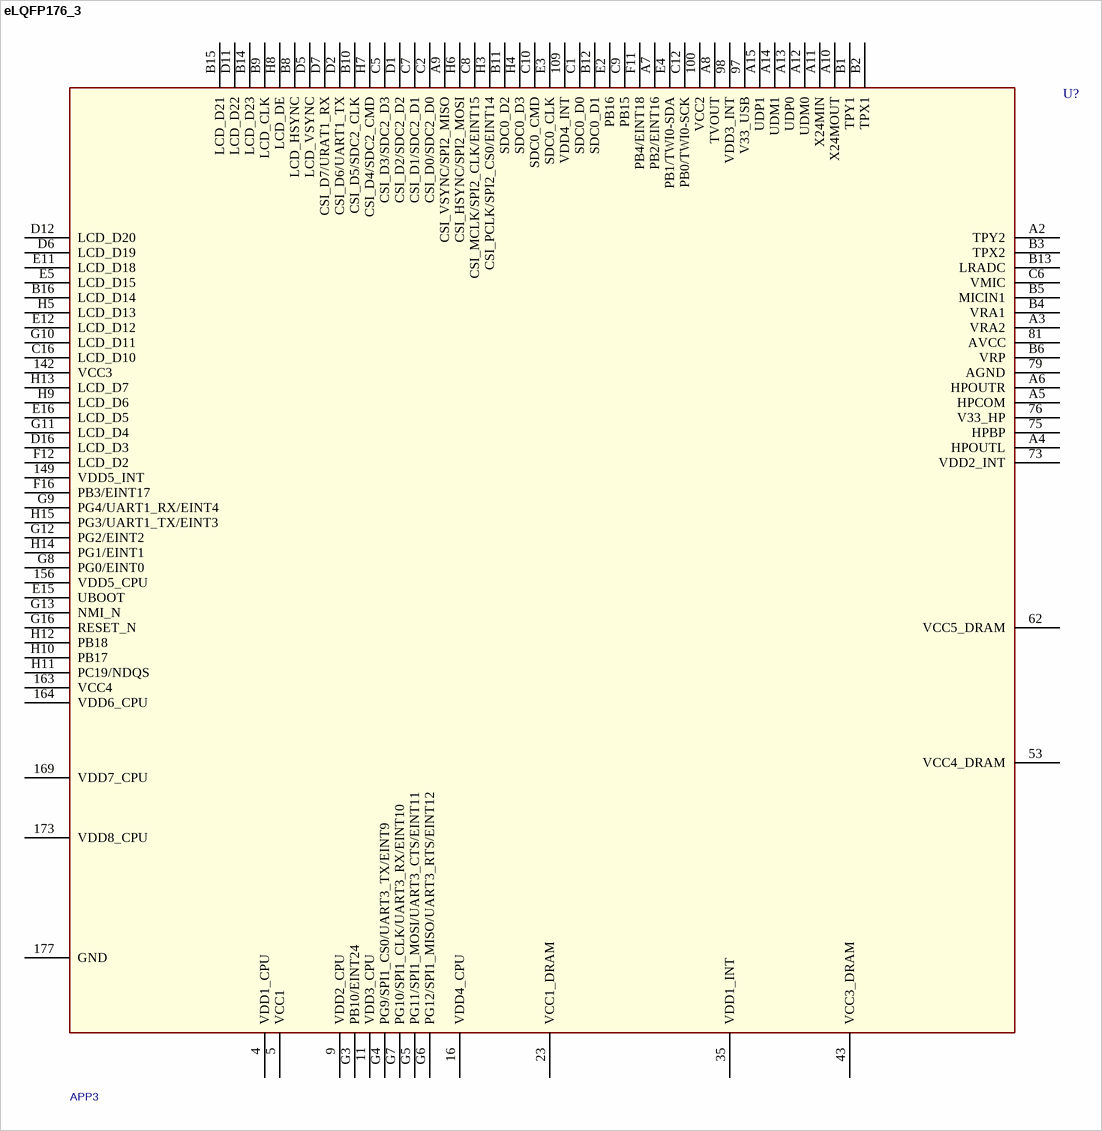
[diagram p7: symbol eLQFP176_3]

## eLQFP176_3
designator U?, comment APP3
pins: 4 VDD1_CPU, 5 VCC1, 9 VDD2_CPU, 11 VDD3_CPU, 16 VDD4_CPU, 23 VCC1_DRAM, 35 VDD1_INT, 43 VCC3_DRAM, 53 VCC4_DRAM, 62 VCC5_DRAM, 73 VDD2_INT, 75 HPBP, 76 V33_HP, 79 AGND, 81 AVCC, 97 V33_USB, 98 VDD3_INT, 100 VCC2, 109 VDD4_INT, 142 VCC3, 149 VDD5_INT, 156 VDD5_CPU, 163 VCC4, 164 VDD6_CPU, 169 VDD7_CPU, 173 VDD8_CPU, 177 GND, A2 TPY2, A3 VRA2, A4 HPOUTL, A5 HPCOM, A6 HPOUTR, A7 PB2/EINT16, A8 TVOUT, A9 CSI_VSYNC/SPI2_MISO, A10 X24MOUT, A11 X24MIN, A12 UDM0, A13 UDP0, A14 UDM1, A15 UDP1, B1 TPY1, B2 TPX1, B3 TPX2, B4 VRA1, B5 MICIN1, B6 VRP, B8 LCD_HSYNC, B9 LCD_CLK, B10 CSI_D5/SDC2_CLK, B11 SDC0_D2, B12 SDC0_D1, B13 LRADC, B14 LCD_D23, B15 LCD_D21, B16 LCD_D14, C1 SDC0_D0, C2 CSI_D0/SDC2_D0, C5 CSI_D3/SDC2_D3, C6 VMIC, C7 CSI_D1/SDC2_D1, C8 CSI_MCLK/SPI2_CLK/EINT15, C9 PB15, C10 SDC0_CMD, C12 PB0/TWI0-SCK, C16 LCD_D10, D1 CSI_D2/SDC2_D2, D2 CSI_D6/UART1_TX, D5 LCD_VSYNC, D6 LCD_D19, D7 CSI_D7/URAT1_RX, D11 LCD_D22, D12 LCD_D20, D16 LCD_D3, E2 PB16, E3 SDC0_CLK, E4 PB1/TWI0-SDA, E5 LCD_D15, E11 LCD_D18, E12 LCD_D12, E15 UBOOT, E16 LCD_D5, F11 PB4/EINT18, F12 LCD_D2, F16 PB3/EINT17, G3 PB10/EINT24, G4 PG9/SPI1_CS0/UART3_TX/EINT9, G5 PG11/SPI1_MOSI/UART3_CTS/EINT11, G6 PG12/SPI1_MISO/UART3_RTS/EINT12, G7 PG10/SPI1_CLK/UART3_RX/EINT10, G8 PG0/EINT0, G9 PG4/UART1_RX/EINT4, G10 LCD_D11, G11 LCD_D4, G12 PG2/EINT2, G13 NMI_N, G16 RESET_N, H3 CSI_PCLK/SPI2_CS0/EINT14, H4 SDC0_D3, H5 LCD_D13, H6 CSI_HSYNC/SPI2_MOSI, H7 CSI_D4/SDC2_CMD, H8 LCD_DE, H9 LCD_D6, H10 PB17, H11 PC19/NDQS, H12 PB18, H13 LCD_D7, H14 PG1/EINT1, H15 PG3/UART1_TX/EINT3

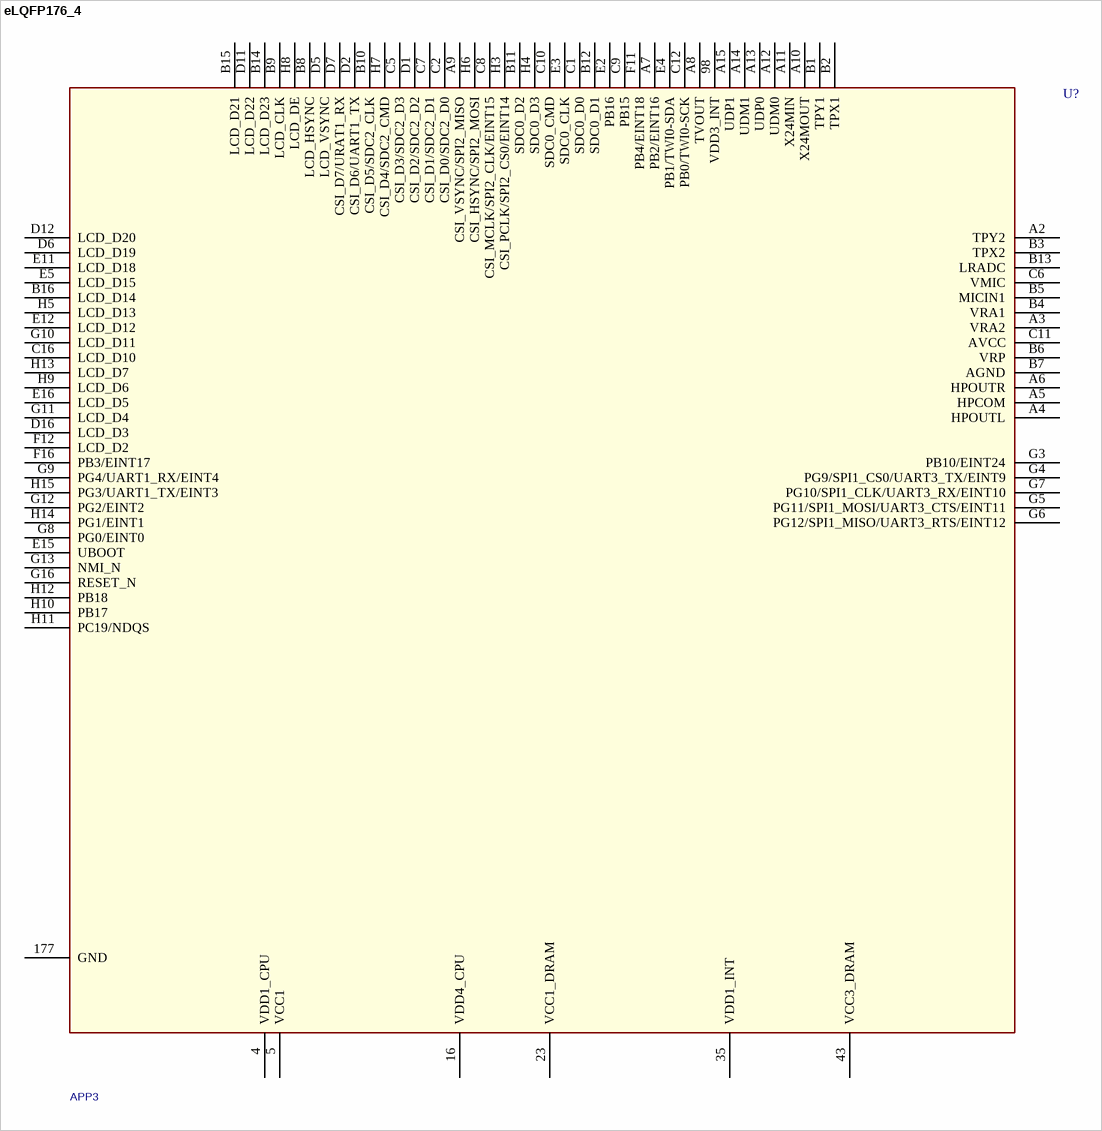
[diagram p8: symbol eLQFP176_4]

## eLQFP176_4
designator U?, comment APP3
pins: 4 VDD1_CPU, 5 VCC1, 16 VDD4_CPU, 23 VCC1_DRAM, 35 VDD1_INT, 43 VCC3_DRAM, 98 VDD3_INT, 177 GND, A2 TPY2, A3 VRA2, A4 HPOUTL, A5 HPCOM, A6 HPOUTR, A7 PB2/EINT16, A8 TVOUT, A9 CSI_VSYNC/SPI2_MISO, A10 X24MOUT, A11 X24MIN, A12 UDM0, A13 UDP0, A14 UDM1, A15 UDP1, B1 TPY1, B2 TPX1, B3 TPX2, B4 VRA1, B5 MICIN1, B6 VRP, B7 AGND, B8 LCD_HSYNC, B9 LCD_CLK, B10 CSI_D5/SDC2_CLK, B11 SDC0_D2, B12 SDC0_D1, B13 LRADC, B14 LCD_D23, B15 LCD_D21, B16 LCD_D14, C1 SDC0_D0, C2 CSI_D0/SDC2_D0, C5 CSI_D3/SDC2_D3, C6 VMIC, C7 CSI_D1/SDC2_D1, C8 CSI_MCLK/SPI2_CLK/EINT15, C9 PB15, C10 SDC0_CMD, C11 AVCC, C12 PB0/TWI0-SCK, C16 LCD_D10, D1 CSI_D2/SDC2_D2, D2 CSI_D6/UART1_TX, D5 LCD_VSYNC, D6 LCD_D19, D7 CSI_D7/URAT1_RX, D11 LCD_D22, D12 LCD_D20, D16 LCD_D3, E2 PB16, E3 SDC0_CLK, E4 PB1/TWI0-SDA, E5 LCD_D15, E11 LCD_D18, E12 LCD_D12, E15 UBOOT, E16 LCD_D5, F11 PB4/EINT18, F12 LCD_D2, F16 PB3/EINT17, G3 PB10/EINT24, G4 PG9/SPI1_CS0/UART3_TX/EINT9, G5 PG11/SPI1_MOSI/UART3_CTS/EINT11, G6 PG12/SPI1_MISO/UART3_RTS/EINT12, G7 PG10/SPI1_CLK/UART3_RX/EINT10, G8 PG0/EINT0, G9 PG4/UART1_RX/EINT4, G10 LCD_D11, G11 LCD_D4, G12 PG2/EINT2, G13 NMI_N, G16 RESET_N, H3 CSI_PCLK/SPI2_CS0/EINT14, H4 SDC0_D3, H5 LCD_D13, H6 CSI_HSYNC/SPI2_MOSI, H7 CSI_D4/SDC2_CMD, H8 LCD_DE, H9 LCD_D6, H10 PB17, H11 PC19/NDQS, H12 PB18, H13 LCD_D7, H14 PG1/EINT1, H15 PG3/UART1_TX/EINT3

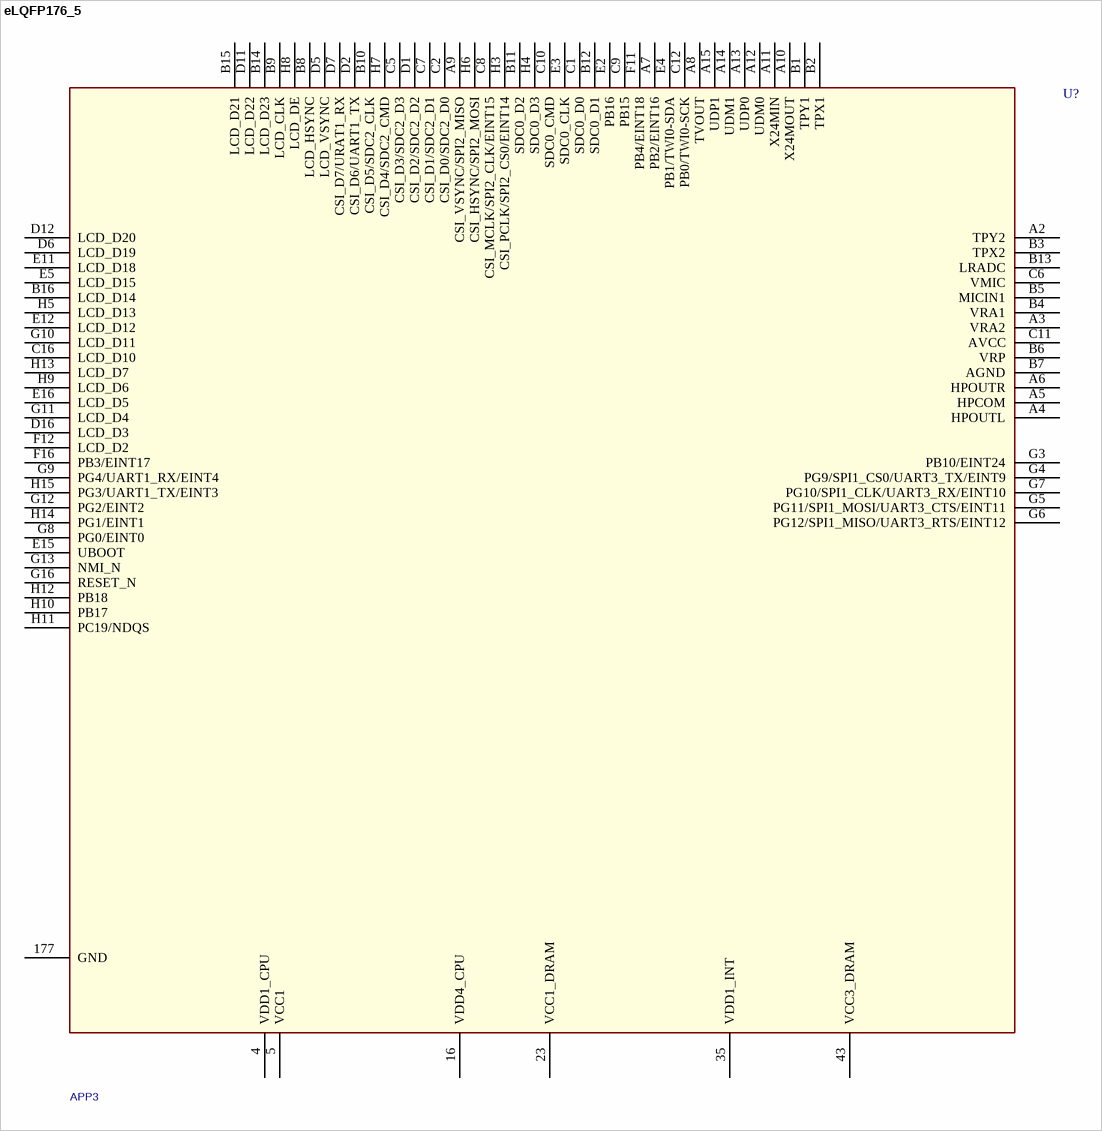
[diagram p9: symbol eLQFP176_5]

## eLQFP176_5
designator U?, comment APP3
pins: 4 VDD1_CPU, 5 VCC1, 16 VDD4_CPU, 23 VCC1_DRAM, 35 VDD1_INT, 43 VCC3_DRAM, 177 GND, A2 TPY2, A3 VRA2, A4 HPOUTL, A5 HPCOM, A6 HPOUTR, A7 PB2/EINT16, A8 TVOUT, A9 CSI_VSYNC/SPI2_MISO, A10 X24MOUT, A11 X24MIN, A12 UDM0, A13 UDP0, A14 UDM1, A15 UDP1, B1 TPY1, B2 TPX1, B3 TPX2, B4 VRA1, B5 MICIN1, B6 VRP, B7 AGND, B8 LCD_HSYNC, B9 LCD_CLK, B10 CSI_D5/SDC2_CLK, B11 SDC0_D2, B12 SDC0_D1, B13 LRADC, B14 LCD_D23, B15 LCD_D21, B16 LCD_D14, C1 SDC0_D0, C2 CSI_D0/SDC2_D0, C5 CSI_D3/SDC2_D3, C6 VMIC, C7 CSI_D1/SDC2_D1, C8 CSI_MCLK/SPI2_CLK/EINT15, C9 PB15, C10 SDC0_CMD, C11 AVCC, C12 PB0/TWI0-SCK, C16 LCD_D10, D1 CSI_D2/SDC2_D2, D2 CSI_D6/UART1_TX, D5 LCD_VSYNC, D6 LCD_D19, D7 CSI_D7/URAT1_RX, D11 LCD_D22, D12 LCD_D20, D16 LCD_D3, E2 PB16, E3 SDC0_CLK, E4 PB1/TWI0-SDA, E5 LCD_D15, E11 LCD_D18, E12 LCD_D12, E15 UBOOT, E16 LCD_D5, F11 PB4/EINT18, F12 LCD_D2, F16 PB3/EINT17, G3 PB10/EINT24, G4 PG9/SPI1_CS0/UART3_TX/EINT9, G5 PG11/SPI1_MOSI/UART3_CTS/EINT11, G6 PG12/SPI1_MISO/UART3_RTS/EINT12, G7 PG10/SPI1_CLK/UART3_RX/EINT10, G8 PG0/EINT0, G9 PG4/UART1_RX/EINT4, G10 LCD_D11, G11 LCD_D4, G12 PG2/EINT2, G13 NMI_N, G16 RESET_N, H3 CSI_PCLK/SPI2_CS0/EINT14, H4 SDC0_D3, H5 LCD_D13, H6 CSI_HSYNC/SPI2_MOSI, H7 CSI_D4/SDC2_CMD, H8 LCD_DE, H9 LCD_D6, H10 PB17, H11 PC19/NDQS, H12 PB18, H13 LCD_D7, H14 PG1/EINT1, H15 PG3/UART1_TX/EINT3

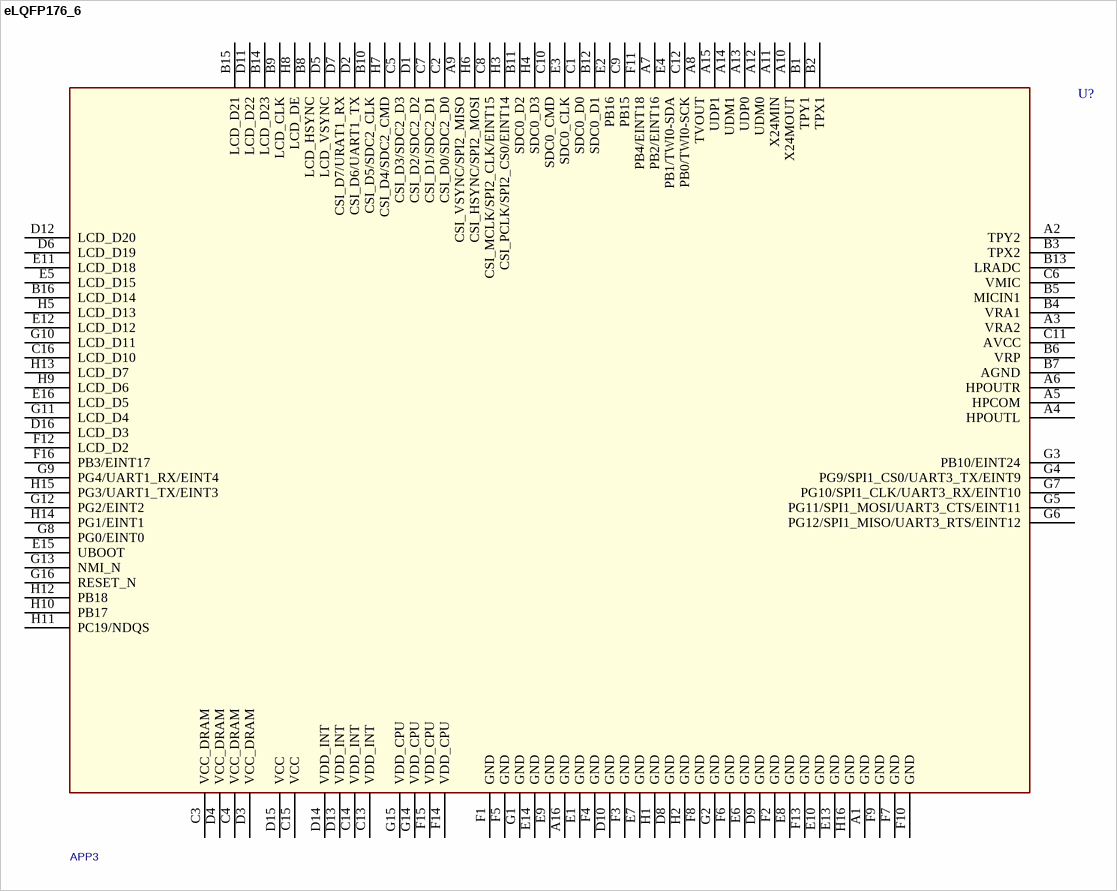
[diagram p10: symbol eLQFP176_6]

## eLQFP176_6
designator U?, comment APP3
pins: A1 GND (power), A2 TPY2, A3 VRA2, A4 HPOUTL, A5 HPCOM, A6 HPOUTR, A7 PB2/EINT16, A8 TVOUT, A9 CSI_VSYNC/SPI2_MISO, A10 X24MOUT, A11 X24MIN, A12 UDM0, A13 UDP0, A14 UDM1, A15 UDP1, A16 GND (power), B1 TPY1, B2 TPX1, B3 TPX2, B4 VRA1, B5 MICIN1, B6 VRP, B7 AGND, B8 LCD_HSYNC, B9 LCD_CLK, B10 CSI_D5/SDC2_CLK, B11 SDC0_D2, B12 SDC0_D1, B13 LRADC, B14 LCD_D23, B15 LCD_D21, B16 LCD_D14, C1 SDC0_D0, C2 CSI_D0/SDC2_D0, C3 VCC_DRAM (power), C4 VCC_DRAM (power), C5 CSI_D3/SDC2_D3, C6 VMIC, C7 CSI_D1/SDC2_D1, C8 CSI_MCLK/SPI2_CLK/EINT15, C9 PB15, C10 SDC0_CMD, C11 AVCC, C12 PB0/TWI0-SCK, C13 VDD_INT (power), C14 VDD_INT (power), C15 VCC (power), C16 LCD_D10, D1 CSI_D2/SDC2_D2, D2 CSI_D6/UART1_TX, D3 VCC_DRAM (power), D4 VCC_DRAM (power), D5 LCD_VSYNC, D6 LCD_D19, D7 CSI_D7/URAT1_RX, D8 GND (power), D9 GND (power), D10 GND (power), D11 LCD_D22, D12 LCD_D20, D13 VDD_INT (power), D14 VDD_INT (power), D15 VCC (power), D16 LCD_D3, E1 GND (power), E2 PB16, E3 SDC0_CLK, E4 PB1/TWI0-SDA, E5 LCD_D15, E6 GND (power), E7 GND (power), E8 GND (power), E9 GND (power), E10 GND (power), E11 LCD_D18, E12 LCD_D12, E13 GND (power), E14 GND (power), E15 UBOOT, E16 LCD_D5, F1 GND (power), F2 GND (power), F3 GND (power), F4 GND (power), F5 GND (power), F6 GND (power), F7 GND (power), F8 GND (power), F9 GND (power), F10 GND (power), F11 PB4/EINT18, F12 LCD_D2, F13 GND (power), F14 VDD_CPU (power), F15 VDD_CPU (power), F16 PB3/EINT17, G1 GND (power), G2 GND (power), G3 PB10/EINT24, G4 PG9/SPI1_CS0/UART3_TX/EINT9, G5 PG11/SPI1_MOSI/UART3_CTS/EINT11, G6 PG12/SPI1_MISO/UART3_RTS/EINT12, G7 PG10/SPI1_CLK/UART3_RX/EINT10, G8 PG0/EINT0, G9 PG4/UART1_RX/EINT4, G10 LCD_D11, G11 LCD_D4, G12 PG2/EINT2, G13 NMI_N, G14 VDD_CPU (power), G15 VDD_CPU (power), G16 RESET_N, H1 GND (power), H2 GND (power), H3 CSI_PCLK/SPI2_CS0/EINT14, H4 SDC0_D3, H5 LCD_D13, H6 CSI_HSYNC/SPI2_MOSI, H7 CSI_D4/SDC2_CMD, H8 LCD_DE, H9 LCD_D6, H10 PB17, H11 PC19/NDQS, H12 PB18, H13 LCD_D7, H14 PG1/EINT1, H15 PG3/UART1_TX/EINT3, H16 GND (power)

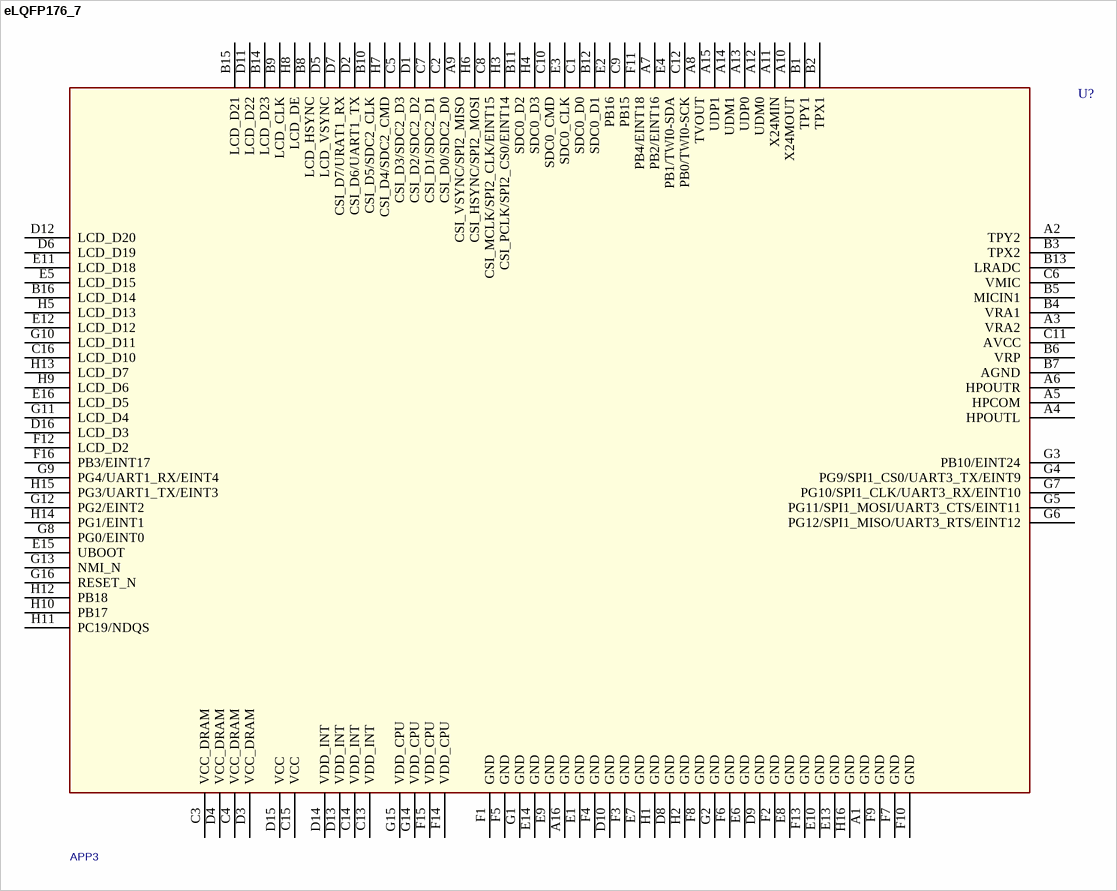
[diagram p11: symbol eLQFP176_7]

## eLQFP176_7
designator U?, comment APP3
pins: A1 GND (power), A2 TPY2, A3 VRA2, A4 HPOUTL, A5 HPCOM, A6 HPOUTR, A7 PB2/EINT16, A8 TVOUT, A9 CSI_VSYNC/SPI2_MISO, A10 X24MOUT, A11 X24MIN, A12 UDM0, A13 UDP0, A14 UDM1, A15 UDP1, A16 GND (power), B1 TPY1, B2 TPX1, B3 TPX2, B4 VRA1, B5 MICIN1, B6 VRP, B7 AGND, B8 LCD_HSYNC, B9 LCD_CLK, B10 CSI_D5/SDC2_CLK, B11 SDC0_D2, B12 SDC0_D1, B13 LRADC, B14 LCD_D23, B15 LCD_D21, B16 LCD_D14, C1 SDC0_D0, C2 CSI_D0/SDC2_D0, C3 VCC_DRAM (power), C4 VCC_DRAM (power), C5 CSI_D3/SDC2_D3, C6 VMIC, C7 CSI_D1/SDC2_D1, C8 CSI_MCLK/SPI2_CLK/EINT15, C9 PB15, C10 SDC0_CMD, C11 AVCC, C12 PB0/TWI0-SCK, C13 VDD_INT (power), C14 VDD_INT (power), C15 VCC (power), C16 LCD_D10, D1 CSI_D2/SDC2_D2, D2 CSI_D6/UART1_TX, D3 VCC_DRAM (power), D4 VCC_DRAM (power), D5 LCD_VSYNC, D6 LCD_D19, D7 CSI_D7/URAT1_RX, D8 GND (power), D9 GND (power), D10 GND (power), D11 LCD_D22, D12 LCD_D20, D13 VDD_INT (power), D14 VDD_INT (power), D15 VCC (power), D16 LCD_D3, E1 GND (power), E2 PB16, E3 SDC0_CLK, E4 PB1/TWI0-SDA, E5 LCD_D15, E6 GND (power), E7 GND (power), E8 GND (power), E9 GND (power), E10 GND (power), E11 LCD_D18, E12 LCD_D12, E13 GND (power), E14 GND (power), E15 UBOOT, E16 LCD_D5, F1 GND (power), F2 GND (power), F3 GND (power), F4 GND (power), F5 GND (power), F6 GND (power), F7 GND (power), F8 GND (power), F9 GND (power), F10 GND (power), F11 PB4/EINT18, F12 LCD_D2, F13 GND (power), F14 VDD_CPU (power), F15 VDD_CPU (power), F16 PB3/EINT17, G1 GND (power), G2 GND (power), G3 PB10/EINT24, G4 PG9/SPI1_CS0/UART3_TX/EINT9, G5 PG11/SPI1_MOSI/UART3_CTS/EINT11, G6 PG12/SPI1_MISO/UART3_RTS/EINT12, G7 PG10/SPI1_CLK/UART3_RX/EINT10, G8 PG0/EINT0, G9 PG4/UART1_RX/EINT4, G10 LCD_D11, G11 LCD_D4, G12 PG2/EINT2, G13 NMI_N, G14 VDD_CPU (power), G15 VDD_CPU (power), G16 RESET_N, H1 GND (power), H2 GND (power), H3 CSI_PCLK/SPI2_CS0/EINT14, H4 SDC0_D3, H5 LCD_D13, H6 CSI_HSYNC/SPI2_MOSI, H7 CSI_D4/SDC2_CMD, H8 LCD_DE, H9 LCD_D6, H10 PB17, H11 PC19/NDQS, H12 PB18, H13 LCD_D7, H14 PG1/EINT1, H15 PG3/UART1_TX/EINT3, H16 GND (power)

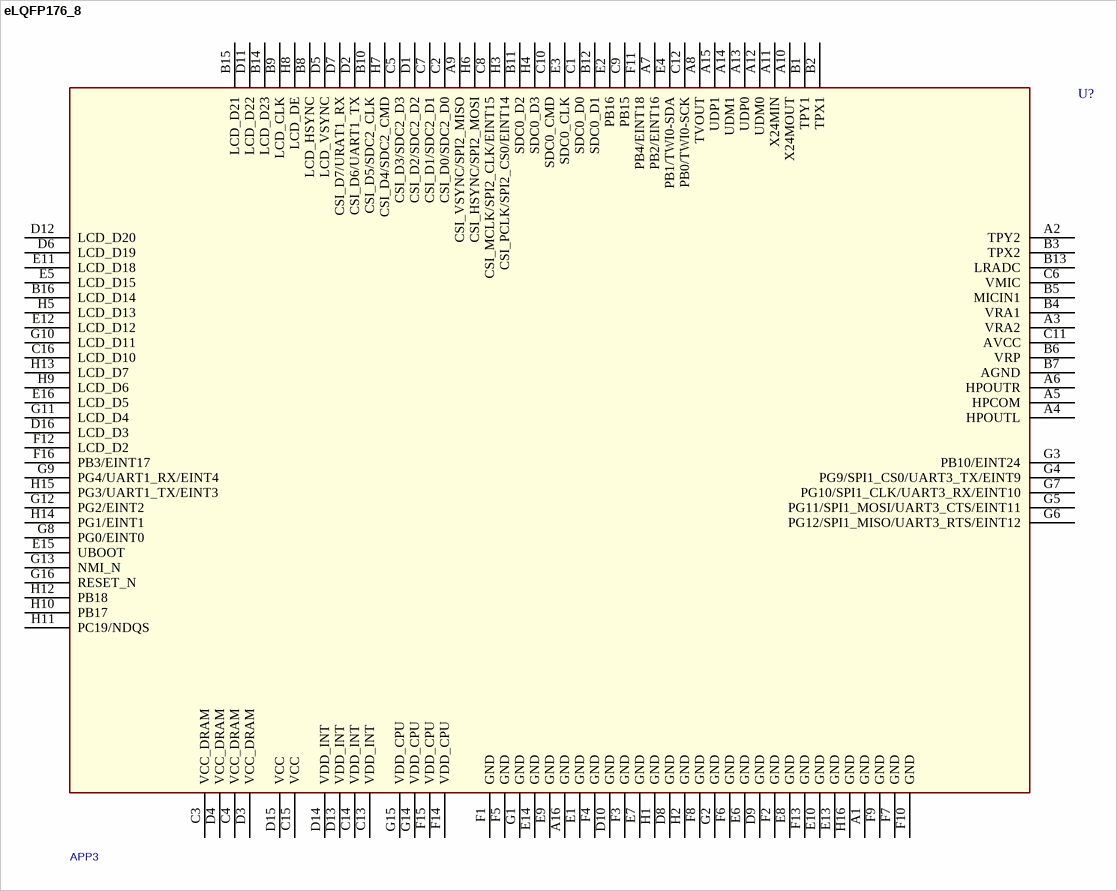
[diagram p12: symbol eLQFP176_8]

## eLQFP176_8
designator U?, comment APP3
pins: A1 GND (power), A2 TPY2, A3 VRA2, A4 HPOUTL, A5 HPCOM, A6 HPOUTR, A7 PB2/EINT16, A8 TVOUT, A9 CSI_VSYNC/SPI2_MISO, A10 X24MOUT, A11 X24MIN, A12 UDM0, A13 UDP0, A14 UDM1, A15 UDP1, A16 GND (power), B1 TPY1, B2 TPX1, B3 TPX2, B4 VRA1, B5 MICIN1, B6 VRP, B7 AGND, B8 LCD_HSYNC, B9 LCD_CLK, B10 CSI_D5/SDC2_CLK, B11 SDC0_D2, B12 SDC0_D1, B13 LRADC, B14 LCD_D23, B15 LCD_D21, B16 LCD_D14, C1 SDC0_D0, C2 CSI_D0/SDC2_D0, C3 VCC_DRAM (power), C4 VCC_DRAM (power), C5 CSI_D3/SDC2_D3, C6 VMIC, C7 CSI_D1/SDC2_D1, C8 CSI_MCLK/SPI2_CLK/EINT15, C9 PB15, C10 SDC0_CMD, C11 AVCC, C12 PB0/TWI0-SCK, C13 VDD_INT (power), C14 VDD_INT (power), C15 VCC (power), C16 LCD_D10, D1 CSI_D2/SDC2_D2, D2 CSI_D6/UART1_TX, D3 VCC_DRAM (power), D4 VCC_DRAM (power), D5 LCD_VSYNC, D6 LCD_D19, D7 CSI_D7/URAT1_RX, D8 GND (power), D9 GND (power), D10 GND (power), D11 LCD_D22, D12 LCD_D20, D13 VDD_INT (power), D14 VDD_INT (power), D15 VCC (power), D16 LCD_D3, E1 GND (power), E2 PB16, E3 SDC0_CLK, E4 PB1/TWI0-SDA, E5 LCD_D15, E6 GND (power), E7 GND (power), E8 GND (power), E9 GND (power), E10 GND (power), E11 LCD_D18, E12 LCD_D12, E13 GND (power), E14 GND (power), E15 UBOOT, E16 LCD_D5, F1 GND (power), F2 GND (power), F3 GND (power), F4 GND (power), F5 GND (power), F6 GND (power), F7 GND (power), F8 GND (power), F9 GND (power), F10 GND (power), F11 PB4/EINT18, F12 LCD_D2, F13 GND (power), F14 VDD_CPU (power), F15 VDD_CPU (power), F16 PB3/EINT17, G1 GND (power), G2 GND (power), G3 PB10/EINT24, G4 PG9/SPI1_CS0/UART3_TX/EINT9, G5 PG11/SPI1_MOSI/UART3_CTS/EINT11, G6 PG12/SPI1_MISO/UART3_RTS/EINT12, G7 PG10/SPI1_CLK/UART3_RX/EINT10, G8 PG0/EINT0, G9 PG4/UART1_RX/EINT4, G10 LCD_D11, G11 LCD_D4, G12 PG2/EINT2, G13 NMI_N, G14 VDD_CPU (power), G15 VDD_CPU (power), G16 RESET_N, H1 GND (power), H2 GND (power), H3 CSI_PCLK/SPI2_CS0/EINT14, H4 SDC0_D3, H5 LCD_D13, H6 CSI_HSYNC/SPI2_MOSI, H7 CSI_D4/SDC2_CMD, H8 LCD_DE, H9 LCD_D6, H10 PB17, H11 PC19/NDQS, H12 PB18, H13 LCD_D7, H14 PG1/EINT1, H15 PG3/UART1_TX/EINT3, H16 GND (power)

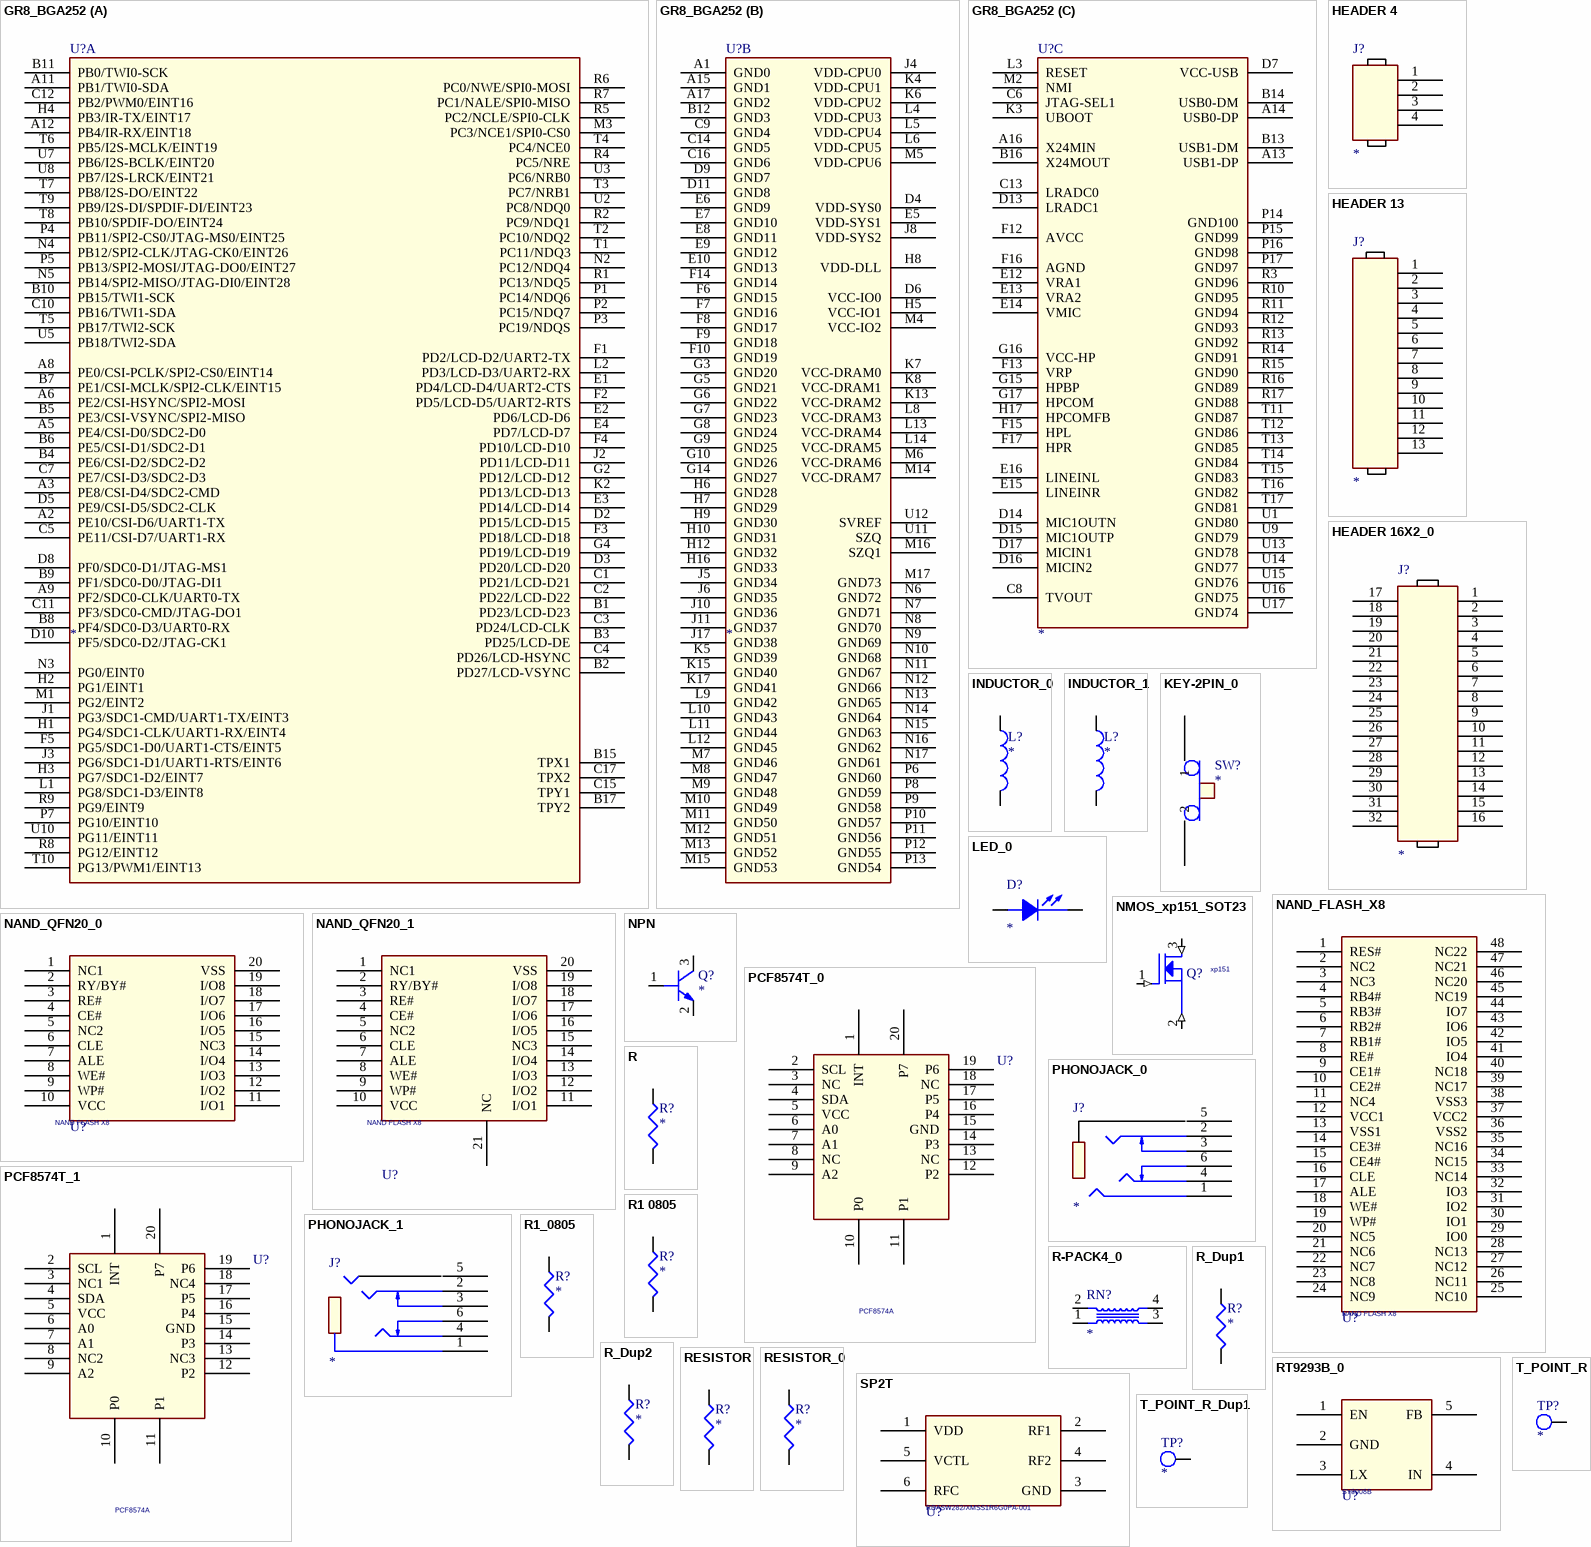
[diagram p13: symbols GR8_BGA252 to T_POINT_R_Dup1]

## GR8_BGA252
designator U?
SPLIT_INST: TRUE
footprint BGA252P80B1400_1400
part A pins: A2 PE10/CSI-D6/UART1-TX, A3 PE8/CSI-D4/SDC2-CMD, A5 PE4/CSI-D0/SDC2-D0, A6 PE2/CSI-HSYNC/SPI2-MOSI, A8 PE0/CSI-PCLK/SPI2-CS0/EINT14, A9 PF2/SDC0-CLK/UART0-TX, A11 PB1/TWI0-SDA, A12 PB4/IR-RX/EINT18, B1 PD23/LCD-D23, B2 PD27/LCD-VSYNC, B3 PD25/LCD-DE, B4 PE6/CSI-D2/SDC2-D2, B5 PE3/CSI-VSYNC/SPI2-MISO, B6 PE5/CSI-D1/SDC2-D1, B7 PE1/CSI-MCLK/SPI2-CLK/EINT15, B8 PF4/SDC0-D3/UART0-RX, B9 PF1/SDC0-D0/JTAG-DI1, B10 PB15/TWI1-SCK, B11 PB0/TWI0-SCK, B15 TPX1, B17 TPY2, C1 PD21/LCD-D21, C2 PD22/LCD-D22, C3 PD24/LCD-CLK, C4 PD26/LCD-HSYNC, C5 PE11/CSI-D7/UART1-RX, C7 PE7/CSI-D3/SDC2-D3, C10 PB16/TWI1-SDA, C11 PF3/SDC0-CMD/JTAG-DO1, C12 PB2/PWM0/EINT16, C15 TPY1, C17 TPX2, D2 PD15/LCD-D15, D3 PD20/LCD-D20, D5 PE9/CSI-D5/SDC2-CLK, D8 PF0/SDC0-D1/JTAG-MS1, D10 PF5/SDC0-D2/JTAG-CK1, E1 PD4/LCD-D4/UART2-CTS, E2 PD6/LCD-D6, E3 PD14/LCD-D14, E4 PD7/LCD-D7, F1 PD2/LCD-D2/UART2-TX, F2 PD5/LCD-D5/UART2-RTS, F3 PD18/LCD-D18, F4 PD10/LCD-D10, F5 PG5/SDC1-D0/UART1-CTS/EINT5, G2 PD12/LCD-D12, G4 PD19/LCD-D19, H1 PG4/SDC1-CLK/UART1-RX/EINT4, H2 PG1/EINT1, H3 PG7/SDC1-D2/EINT7, H4 PB3/IR-TX/EINT17, J1 PG3/SDC1-CMD/UART1-TX/EINT3, J2 PD11/LCD-D11, J3 PG6/SDC1-D1/UART1-RTS/EINT6, K2 PD13/LCD-D13, L1 PG8/SDC1-D3/EINT8, L2 PD3/LCD-D3/UART2-RX, M1 PG2/EINT2, M3 PC3/NCE1/SPI0-CS0, N2 PC12/NDQ4, N3 PG0/EINT0, N4 PB12/SPI2-CLK/JTAG-CK0/EINT26, N5 PB14/SPI2-MISO/JTAG-DI0/EINT28, P1 PC14/NDQ6, P2 PC15/NDQ7, P3 PC19/NDQS, P4 PB11/SPI2-CS0/JTAG-MS0/EINT25, P5 PB13/SPI2-MOSI/JTAG-DO0/EINT27, P7 PG10/EINT10, R1 PC13/NDQ5, R2 PC9/NDQ1, R4 PC5/NRE, R5 PC2/NCLE/SPI0-CLK, R6 PC0/NWE/SPI0-MOSI, R7 PC1/NALE/SPI0-MISO, R8 PG12/EINT12, R9 PG9/EINT9, T1 PC11/NDQ3, T2 PC10/NDQ2, T3 PC7/NRB1, T4 PC4/NCE0, T5 PB17/TWI2-SCK, T6 PB5/I2S-MCLK/EINT19, T7 PB8/I2S-DO/EINT22, T8 PB10/SPDIF-DO/EINT24, T9 PB9/I2S-DI/SPDIF-DI/EINT23, T10 PG13/PWM1/EINT13, U2 PC8/NDQ0, U3 PC6/NRB0, U5 PB18/TWI2-SDA, U7 PB6/I2S-BCLK/EINT20, U8 PB7/I2S-LRCK/EINT21, U10 PG11/EINT11
part B pins: A1 GND0, A15 GND1, A17 GND2, B12 GND3, C9 GND4, C14 GND5, C16 GND6, D4 VDD-SYS0, D6 VCC-IO0, D9 GND7, D11 GND8, E5 VDD-SYS1, E6 GND9, E7 GND10, E8 GND11, E9 GND12, E10 GND13, F6 GND15, F7 GND16, F8 GND17, F9 GND18, F10 GND19, F14 GND14, G3 GND20, G5 GND21, G6 GND22, G7 GND23, G8 GND24, G9 GND25, G10 GND26, G14 GND27, H5 VCC-IO1, H6 GND28, H7 GND29, H8 VDD-DLL, H9 GND30, H10 GND31, H12 GND32, H16 GND33, J4 VDD-CPU0, J5 GND34, J6 GND35, J8 VDD-SYS2, J10 GND36, J11 GND37, J17 GND38, K4 VDD-CPU1, K5 GND39, K6 VDD-CPU2, K7 VCC-DRAM0, K8 VCC-DRAM1, K13 VCC-DRAM2, K15 GND40, K17 GND41, L4 VDD-CPU3, L5 VDD-CPU4, L6 VDD-CPU5, L8 VCC-DRAM3, L9 GND42, L10 GND43, L11 GND44, L12 GND45, L13 VCC-DRAM4, L14 VCC-DRAM5, M4 VCC-IO2, M5 VDD-CPU6, M6 VCC-DRAM6, M7 GND46, M8 GND47, M9 GND48, M10 GND49, M11 GND50, M12 GND51, M13 GND52, M14 VCC-DRAM7, M15 GND53, M16 SZQ1, M17 GND73, N6 GND72, N7 GND71, N8 GND70, N9 GND69, N10 GND68, N11 GND67, N12 GND66, N13 GND65, N14 GND64, N15 GND63, N16 GND62, N17 GND61, P6 GND60, P8 GND59, P9 GND58, P10 GND57, P11 GND56, P12 GND55, P13 GND54, U11 SZQ, U12 SVREF
part C pins: A13 USB1-DP, A14 USB0-DP, A16 X24MIN, B13 USB1-DM, B14 USB0-DM, B16 X24MOUT, C6 JTAG-SEL1, C8 TVOUT, C13 LRADC0, D7 VCC-USB, D13 LRADC1, D14 MIC1OUTN, D15 MIC1OUTP, D16 MICIN2, D17 MICIN1, E12 VRA1, E13 VRA2, E14 VMIC, E15 LINEINR, E16 LINEINL, F12 AVCC, F13 VRP, F15 HPL, F16 AGND, F17 HPR, G15 HPBP, G16 VCC-HP, G17 HPCOM, H17 HPCOMFB, K3 UBOOT, L3 RESET, M2 NMI, P14 GND100, P15 GND99, P16 GND98, P17 GND97, R3 GND96, R10 GND95, R11 GND94, R12 GND93, R13 GND92, R14 GND91, R15 GND90, R16 GND89, R17 GND88, T11 GND87, T12 GND86, T13 GND85, T14 GND84, T15 GND83, T16 GND82, T17 GND81, U1 GND80, U9 GND79, U13 GND78, U14 GND77, U15 GND76, U16 GND75, U17 GND74

## HEADER 4
designator J?
pins: 1, 2, 3, 4

## HEADER 13
designator J?
pins: 1, 2, 3, 4, 5, 6, 7, 8, 9, 10, 11, 12, 13

## HEADER 16X2_0
designator J?
pins: 1, 2, 3, 4, 5, 6, 7, 8, 9, 10, 11, 12, 13, 14, 15, 16, 17, 18, 19, 20, 21, 22, 23, 24, 25, 26, 27, 28, 29, 30, 31, 32

## INDUCTOR_0
designator L?
pins: 1, 2

## INDUCTOR_1
designator L?
pins: 1, 2

## KEY-2PIN_0
designator SW?
footprint KEY-2
pins: 1, 2

## LED_0
designator D?
pins: 1 ANODE, 2 CATHODE

## NAND_FLASH_X8
designator U?, comment NAND FLASH X8
footprint TSOP-48
pins: 1 RES#, 2 NC2, 3 NC3, 4 RB4#, 5 RB3#, 6 RB2#, 7 RB1#, 8 RE#, 9 CE1#, 10 CE2#, 11 NC4, 12 VCC1, 13 VSS1, 14 CE3#, 15 CE4#, 16 CLE, 17 ALE, 18 WE#, 19 WP#, 20 NC5, 21 NC6, 22 NC7, 23 NC8, 24 NC9, 25 NC10, 26 NC11, 27 NC12, 28 NC13, 29 IO0, 30 IO1, 31 IO2, 32 IO3, 33 NC14, 34 NC15, 35 NC16, 36 VSS2, 37 VCC2, 38 VSS3, 39 NC17, 40 NC18, 41 IO4, 42 IO5, 43 IO6, 44 IO7, 45 NC19, 46 NC20, 47 NC21, 48 NC22

## NAND_QFN20_0
designator U?, comment NAND FLASH X8
footprint TSOP-48
pins: 1 NC1, 2 RY/BY#, 3 RE#, 4 CE#, 5 NC2, 6 CLE, 7 ALE, 8 WE#, 9 WP#, 10 VCC, 11 I/O1, 12 I/O2, 13 I/O3, 14 I/O4, 15 NC3, 16 I/O5, 17 I/O6, 18 I/O7, 19 I/O8, 20 VSS

## NAND_QFN20_1
designator U?, comment NAND FLASH X8
footprint TSOP-48
pins: 1 NC1, 2 RY/BY#, 3 RE#, 4 CE#, 5 NC2, 6 CLE, 7 ALE, 8 WE#, 9 WP#, 10 VCC, 11 I/O1, 12 I/O2, 13 I/O3, 14 I/O4, 15 NC3, 16 I/O5, 17 I/O6, 18 I/O7, 19 I/O8, 20 VSS, 21 NC

## NMOS_xp151_SOT23
designator Q?, comment xp151
footprint sot-23
pins: 1 GATE (in), 2 SOURCE (in), 3 DRAIN (in)

## NPN
designator Q?
pins: 1 B, 2 E, 3 C

## PCF8574T_0
designator U?, comment PCF8574A
footprint SO16
pins: 1 INT, 2 SCL, 3 NC, 4 SDA, 5 VCC, 6 A0, 7 A1, 8 NC, 9 A2, 10 P0, 11 P1, 12 P2, 13 NC, 14 P3, 15 GND, 16 P4, 17 P5, 18 NC, 19 P6, 20 P7

## PCF8574T_1
designator U?, comment PCF8574A
footprint SO16
pins: 1 INT, 2 SCL, 3 NC1, 4 SDA, 5 VCC, 6 A0, 7 A1, 8 NC2, 9 A2, 10 P0, 11 P1, 12 P2, 13 NC3, 14 P3, 15 GND, 16 P4, 17 P5, 18 NC4, 19 P6, 20 P7

## PHONOJACK_0
designator J?
footprint TSH-3865D
pins: 1, 2, 3, 4, 5, 6

## PHONOJACK_1
designator J?
footprint TSH-3865D
pins: 1, 2, 3, 4, 5, 6

## R
designator R?
pins: 1, 2

## R1 0805
designator R?
footprint 0805
pins: 1, 2

## R1_0805
designator R?
footprint 0805
pins: 1, 2

## R-PACK4_0
designator RN?
pins: 1 R1, 2 R2, 3 R3, 4 R4

## R_Dup1
designator R?
pins: 1, 2

## R_Dup2
designator R?
pins: 1, 2

## RESISTOR
designator R?
pins: 1, 2

## RESISTOR_0
designator R?
footprint R0603
pins: 1, 2

## RT9293B_0
designator U?, comment SY8008B
footprint TSOT-23-6
pins: 1 EN, 2 GND, 3 LX, 4 IN, 5 FB

## SP2T
designator U?, comment RDASW282/XMSS1R6G0PA-001
footprint RFSW6B105_105H40
pins: 1 VDD, 2 RF1, 3 GND, 4 RF2, 5 VCTL, 6 RFC

## T_POINT_R
designator TP?
pins: 1 TP

## T_POINT_R_Dup1
designator TP?
pins: 1 TP

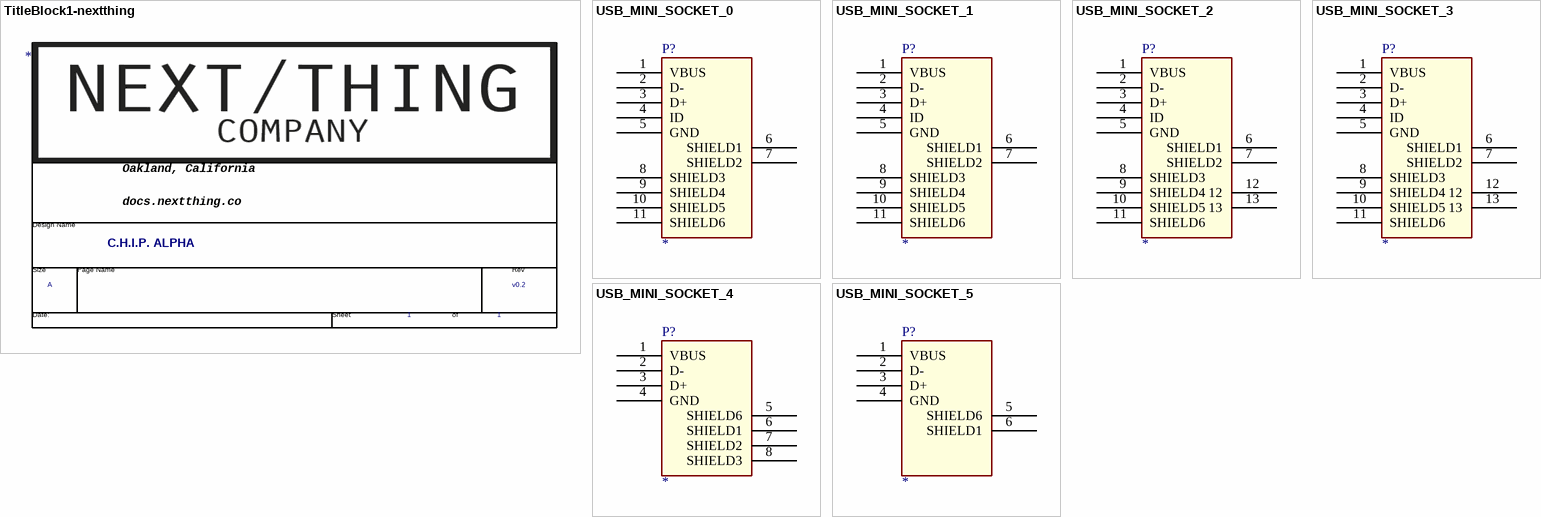
[diagram p14: symbols TitleBlock1-nextthing to USB_MINI_SOCKET_5]

## TitleBlock1-nextthing
designator *  Page Count: 1  Page Size: A  Title: C.H.I.P. ALPHA  RevCode: v0.2  (graphical)
Page Create Date: March  8, 1995; Page Number: 1
text: Oakland, California; docs.nextthing.co /; Design Name; Size; Page Name; Rev; Date:; Sheet; of

## USB_MINI_SOCKET_0
designator P?
footprint USB_MINI_AB
pins: 1 VBUS, 2 D-, 3 D+, 4 ID, 5 GND, 6 SHIELD1, 7 SHIELD2, 8 SHIELD3, 9 SHIELD4, 10 SHIELD5, 11 SHIELD6

## USB_MINI_SOCKET_1
designator P?
footprint USB_MINI_AB
pins: 1 VBUS, 2 D-, 3 D+, 4 ID, 5 GND, 6 SHIELD1, 7 SHIELD2, 8 SHIELD3, 9 SHIELD4, 10 SHIELD5, 11 SHIELD6

## USB_MINI_SOCKET_2
designator P?
footprint USB_MINI_AB
pins: 1 VBUS, 2 D-, 3 D+, 4 ID, 5 GND, 6 SHIELD1, 7 SHIELD2, 8 SHIELD3, 9 SHIELD4, 10 SHIELD5, 11 SHIELD6, 12, 13

## USB_MINI_SOCKET_3
designator P?
footprint USB_MINI_AB
pins: 1 VBUS, 2 D-, 3 D+, 4 ID, 5 GND, 6 SHIELD1, 7 SHIELD2, 8 SHIELD3, 9 SHIELD4, 10 SHIELD5, 11 SHIELD6, 12, 13

## USB_MINI_SOCKET_4
designator P?
footprint USB_MINI_AB
pins: 1 VBUS, 2 D-, 3 D+, 4 GND, 5 SHIELD6, 6 SHIELD1, 7 SHIELD2, 8 SHIELD3

## USB_MINI_SOCKET_5
designator P?
footprint USB_MINI_AB
pins: 1 VBUS, 2 D-, 3 D+, 4 GND, 5 SHIELD6, 6 SHIELD1